# Altium schematic symbol library conn_b2b.SchLib: 41 symbols (part 1 of 2)
Pins are listed as number, name and electrical type; pins without a type are passive.

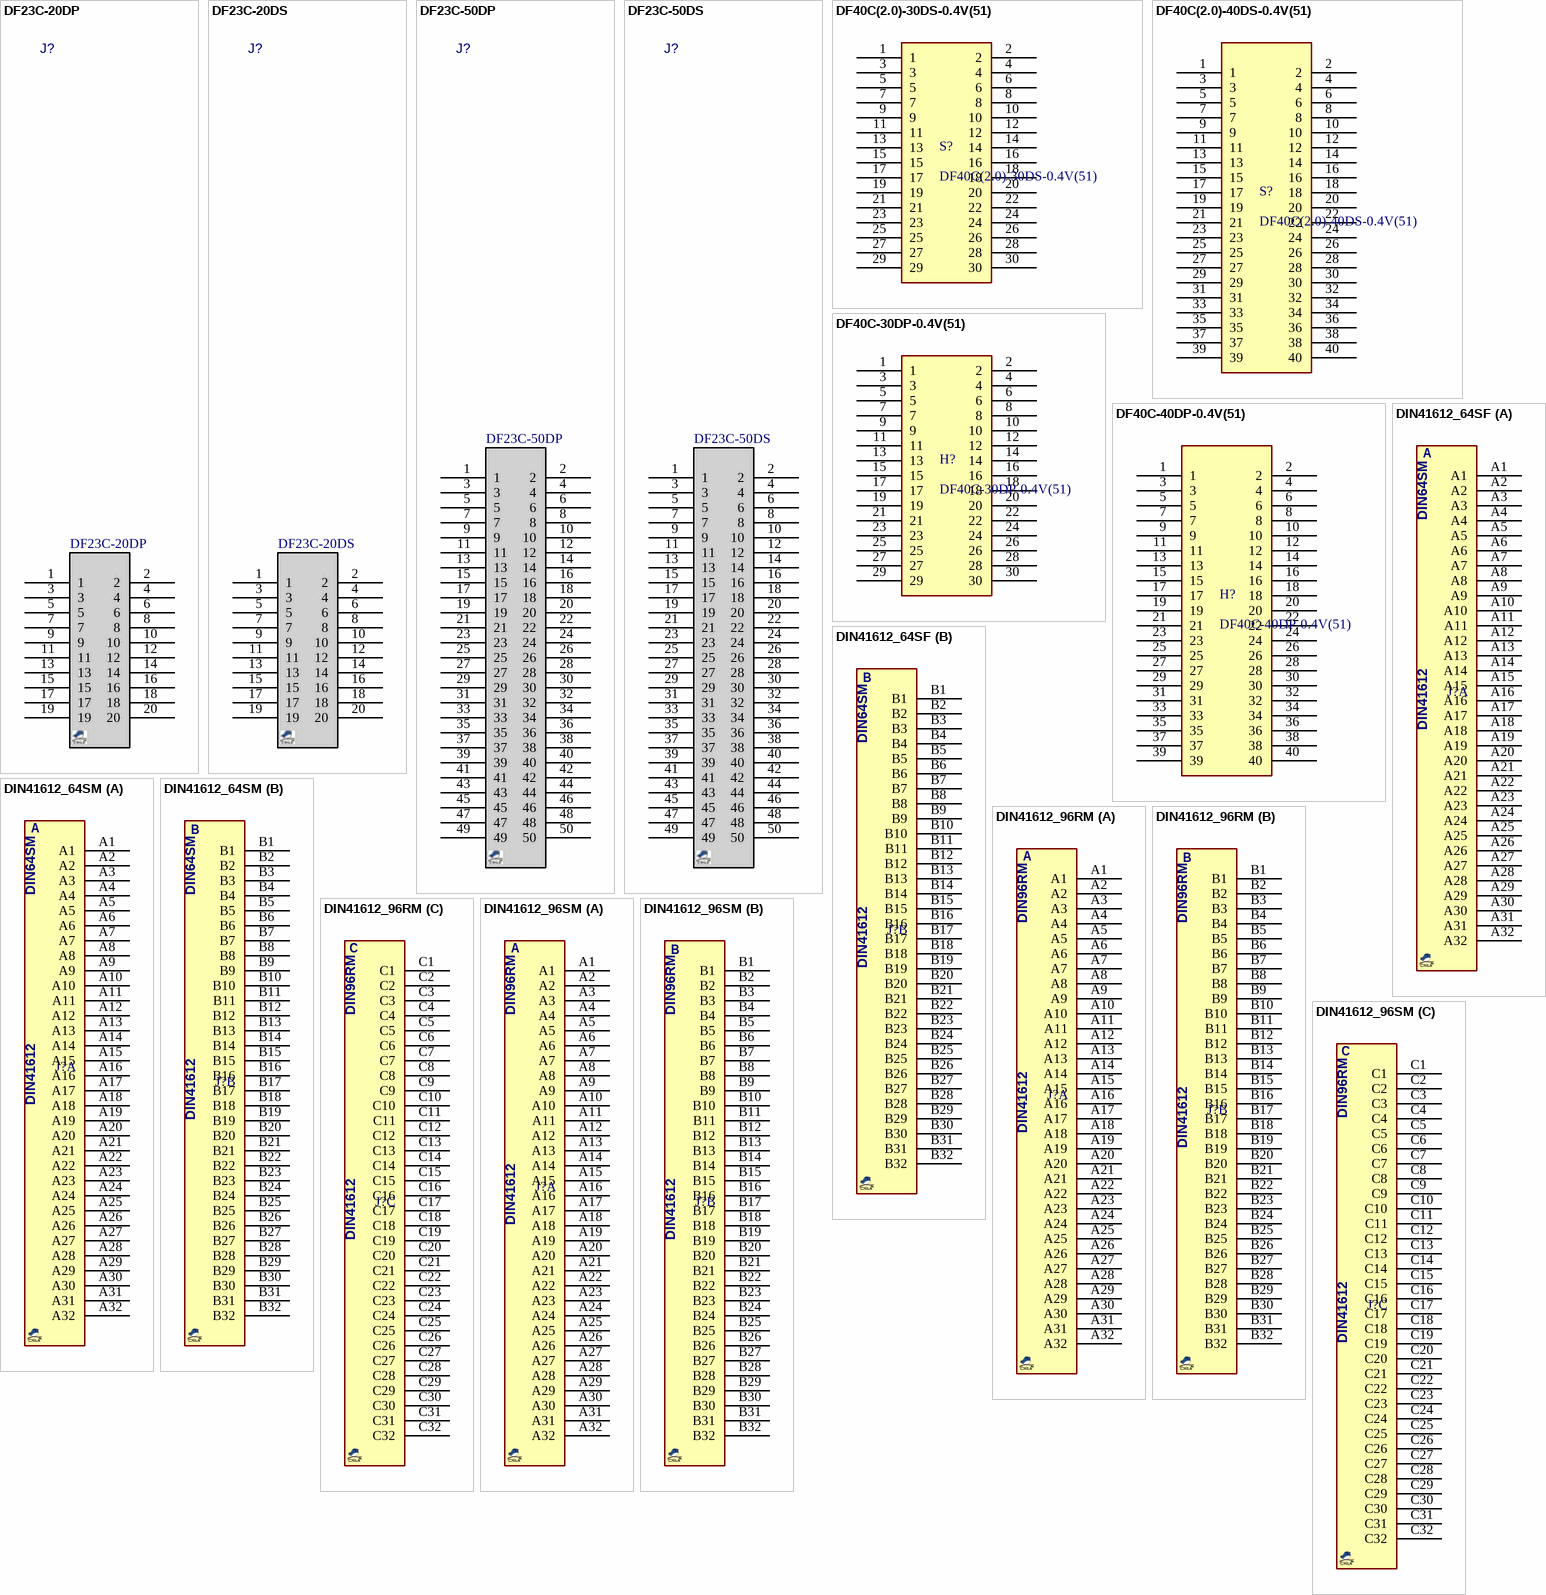
[diagram p0: symbols DF23C-20DP to DIN41612_96SM]

## DF23C-20DP
designator J?
DF23 Series B2B Connectors; MANF: HIROSE; DESC: Mating DF23C-20DS-0.5V(51); MANF_P#: DF23C-20DP-0.5V(92); PRICE: 0.85$; VALUE: DF23C-20DP
footprint DF23C_20DP (Footprint not found)
pins: 1, 2, 3, 4, 5, 6, 7, 8, 9, 10, 11, 12, 13, 14, 15, 16, 17, 18, 19, 20

## DF23C-20DS
designator J?
DF23 Series B2B Connectors; MANF: HIROSE; DESC: Mating DF23C-20DP-0.5V(92); MANF_P#: DF23C-20DS-0.5V(51); PRICE: 0.7$; VALUE: DF23C-20DS
footprint DF23C_20DS (Hirose Connector DF23C-20DS-0.5V(51) 20WAY pitch:0.5mm)
pins: 1, 2, 3, 4, 5, 6, 7, 8, 9, 10, 11, 12, 13, 14, 15, 16, 17, 18, 19, 20

## DF23C-50DP
designator J?
DF23 Series B2B Connectors; MANF: HIROSE; DESC: Mating DF23C-50DS-0.5V(51); MANF_P#: DF23C-50DP-0.5V(92); PRICE: 2$; VALUE: DF23C-50DP
footprint DF23C_50DP (Footprint not found)
pins: 1, 2, 3, 4, 5, 6, 7, 8, 9, 10, 11, 12, 13, 14, 15, 16, 17, 18, 19, 20, 21, 22, 23, 24, 25, 26, 27, 28, 29, 30, 31, 32, 33, 34, 35, 36, 37, 38, 39, 40, 41, 42, 43, 44, 45, 46, 47, 48, 49, 50

## DF23C-50DS
designator J?
DF23 Series B2B Connectors; MANF: HIROSE; DESC: Mating DF23C-50DS-0.5V(92); MANF_P#: DF23C-50DS-0.5V(51); PRICE: 2$; VALUE: DF23C-50DS
footprint DF23C_50DS (Hirose Connector DF23C-50DS-0.5V(51) 50WAY pitch:0.5mm)
pins: 1, 2, 3, 4, 5, 6, 7, 8, 9, 10, 11, 12, 13, 14, 15, 16, 17, 18, 19, 20, 21, 22, 23, 24, 25, 26, 27, 28, 29, 30, 31, 32, 33, 34, 35, 36, 37, 38, 39, 40, 41, 42, 43, 44, 45, 46, 47, 48, 49, 50

## DF40C(2.0)-30DS-0.4V(51)
designator S?
CONN RCPT 30POS 0.4MM SMD GOLD; PARAM2: Polymer Housing, Straight, Gold Plating, 30v; PARAM: 0.3A per pin, 0.4mm pitch, 2mm stack height, -35~85°C; MANF: Hirose; MANF_P#: DF40C(2.0)-30DS-0.4V(51)
footprint DF40C_2_30DS_V (CONN_DF40C, DF40C(2.0)- 30DS-0.4V(51))
pins: 1, 2, 3, 4, 5, 6, 7, 8, 9, 10, 11, 12, 13, 14, 15, 16, 17, 18, 19, 20, 21, 22, 23, 24, 25, 26, 27, 28, 29, 30

## DF40C(2.0)-40DS-0.4V(51)
designator S?
CONN RCPT 40POS 0.4MM SMD GOLD; PARAM2: Polymer Housing, Straight, Gold Plating, 30v; PARAM: 0.3A per pin, 0.4mm pitch, 2mm stack height, -35~85°C; MANF: Hirose; MANF_P#: DF40C(2.0)-40DS-0.4V(51)
footprint DF40C_2_40DS_V (CONN_DF40C, DF40C(2.0)- 40DS-0.4V(51))
pins: 1, 2, 3, 4, 5, 6, 7, 8, 9, 10, 11, 12, 13, 14, 15, 16, 17, 18, 19, 20, 21, 22, 23, 24, 25, 26, 27, 28, 29, 30, 31, 32, 33, 34, 35, 36, 37, 38, 39, 40

## DF40C-30DP-0.4V(51)
designator H?
CONN HDR 30POS 0.4MM SMD GOLD; PARAM2: Polymer Housing, Straight, Gold Plating, 30v; PARAM: 0.3A per pin, 0.4mm pitch, -35~85°C; MANF: Hirose; MANF_P#: DF40C-30DP-0.4V(51)
footprint DF40C_30DP_V (CONN_DF40C, DF40C- 30DP-0.4V(51))
pins: 1, 2, 3, 4, 5, 6, 7, 8, 9, 10, 11, 12, 13, 14, 15, 16, 17, 18, 19, 20, 21, 22, 23, 24, 25, 26, 27, 28, 29, 30

## DF40C-40DP-0.4V(51)
designator H?
CONN HDR 40POS 0.4MM SMD GOLD; PARAM: 0.3A per pin, 0.4mm pitch, -35~85°C; PARAM2: Polymer Housing, Straight, Gold Plating, 30v; MANF: Hirose; MANF_P#: DF40C-40DP-0.4V(51)
footprint DF40C_40DP_V (CONN_DF40C, DF40C- 40DP-0.4V(51))
pins: 1, 2, 3, 4, 5, 6, 7, 8, 9, 10, 11, 12, 13, 14, 15, 16, 17, 18, 19, 20, 21, 22, 23, 24, 25, 26, 27, 28, 29, 30, 31, 32, 33, 34, 35, 36, 37, 38, 39, 40

## DIN41612_64SF
designator J?, comment DIN64SF  (value not drawn)
DIN 41612, 2.54mm,pin,DIN 41612,solder,PCB; MANF: HIROSE; MANF_P#: PCN10-64S-2.54DSA(72); VALUE: DIN64SF
footprint DIN_64SF
part A pins: A1, A2, A3, A4, A5, A6, A7, A8, A9, A10, A11, A12, A13, A14, A15, A16, A17, A18, A19, A20, A21, A22, A23, A24, A25, A26, A27, A28, A29, A30, A31, A32
part B pins: B1, B2, B3, B4, B5, B6, B7, B8, B9, B10, B11, B12, B13, B14, B15, B16, B17, B18, B19, B20, B21, B22, B23, B24, B25, B26, B27, B28, B29, B30, B31, B32
part A text: A; DIN64SM; DIN41612
part B text: B; DIN64SM; DIN41612

## DIN41612_64SM
designator J?, comment DIN64SM  (value not drawn)
DIN 41612, 2.54mm,pin,DIN 41612,solder,PCB; MANF: HIROSE; MANF_P#: PCN10-64P-2.54DSA(72); VALUE: DIN64SM
footprint DIN_64SM (Footprint not found)
part A pins: A1, A2, A3, A4, A5, A6, A7, A8, A9, A10, A11, A12, A13, A14, A15, A16, A17, A18, A19, A20, A21, A22, A23, A24, A25, A26, A27, A28, A29, A30, A31, A32
part B pins: B1, B2, B3, B4, B5, B6, B7, B8, B9, B10, B11, B12, B13, B14, B15, B16, B17, B18, B19, B20, B21, B22, B23, B24, B25, B26, B27, B28, B29, B30, B31, B32
part A text: A; DIN41612
part B text: B; DIN41612

## DIN41612_96RM
designator J?, comment DIN96RM  (value not drawn)
DIN 41612, 2.54mm,pin,DIN 41612,solder,PCB,90,96w,; MANF: TE; MANF_P#: 5650947-5; VALUE: DIN96RM
footprint DIN_96RM
part A pins: A1, A2, A3, A4, A5, A6, A7, A8, A9, A10, A11, A12, A13, A14, A15, A16, A17, A18, A19, A20, A21, A22, A23, A24, A25, A26, A27, A28, A29, A30, A31, A32
part B pins: B1, B2, B3, B4, B5, B6, B7, B8, B9, B10, B11, B12, B13, B14, B15, B16, B17, B18, B19, B20, B21, B22, B23, B24, B25, B26, B27, B28, B29, B30, B31, B32
part C pins: C1, C2, C3, C4, C5, C6, C7, C8, C9, C10, C11, C12, C13, C14, C15, C16, C17, C18, C19, C20, C21, C22, C23, C24, C25, C26, C27, C28, C29, C30, C31, C32
part A text: A; DIN41612
part B text: B; DIN41612
part C text: C; DIN41612

## DIN41612_96SM
designator J?, comment DIN96SM  (value not drawn)
DIN 41612, 2.54mm,pin,DIN 41612,solder,PCB,96w,; MANF: TE; DESC: compatible female 535089-5; MANF_P#: 650470-5; VALUE: DIN96SM
footprint DIN_96SM
part A pins: A1, A2, A3, A4, A5, A6, A7, A8, A9, A10, A11, A12, A13, A14, A15, A16, A17, A18, A19, A20, A21, A22, A23, A24, A25, A26, A27, A28, A29, A30, A31, A32
part B pins: B1, B2, B3, B4, B5, B6, B7, B8, B9, B10, B11, B12, B13, B14, B15, B16, B17, B18, B19, B20, B21, B22, B23, B24, B25, B26, B27, B28, B29, B30, B31, B32
part C pins: C1, C2, C3, C4, C5, C6, C7, C8, C9, C10, C11, C12, C13, C14, C15, C16, C17, C18, C19, C20, C21, C22, C23, C24, C25, C26, C27, C28, C29, C30, C31, C32
part A text: A; DIN96RM; DIN41612
part B text: B; DIN96RM; DIN41612
part C text: C; DIN96RM; DIN41612

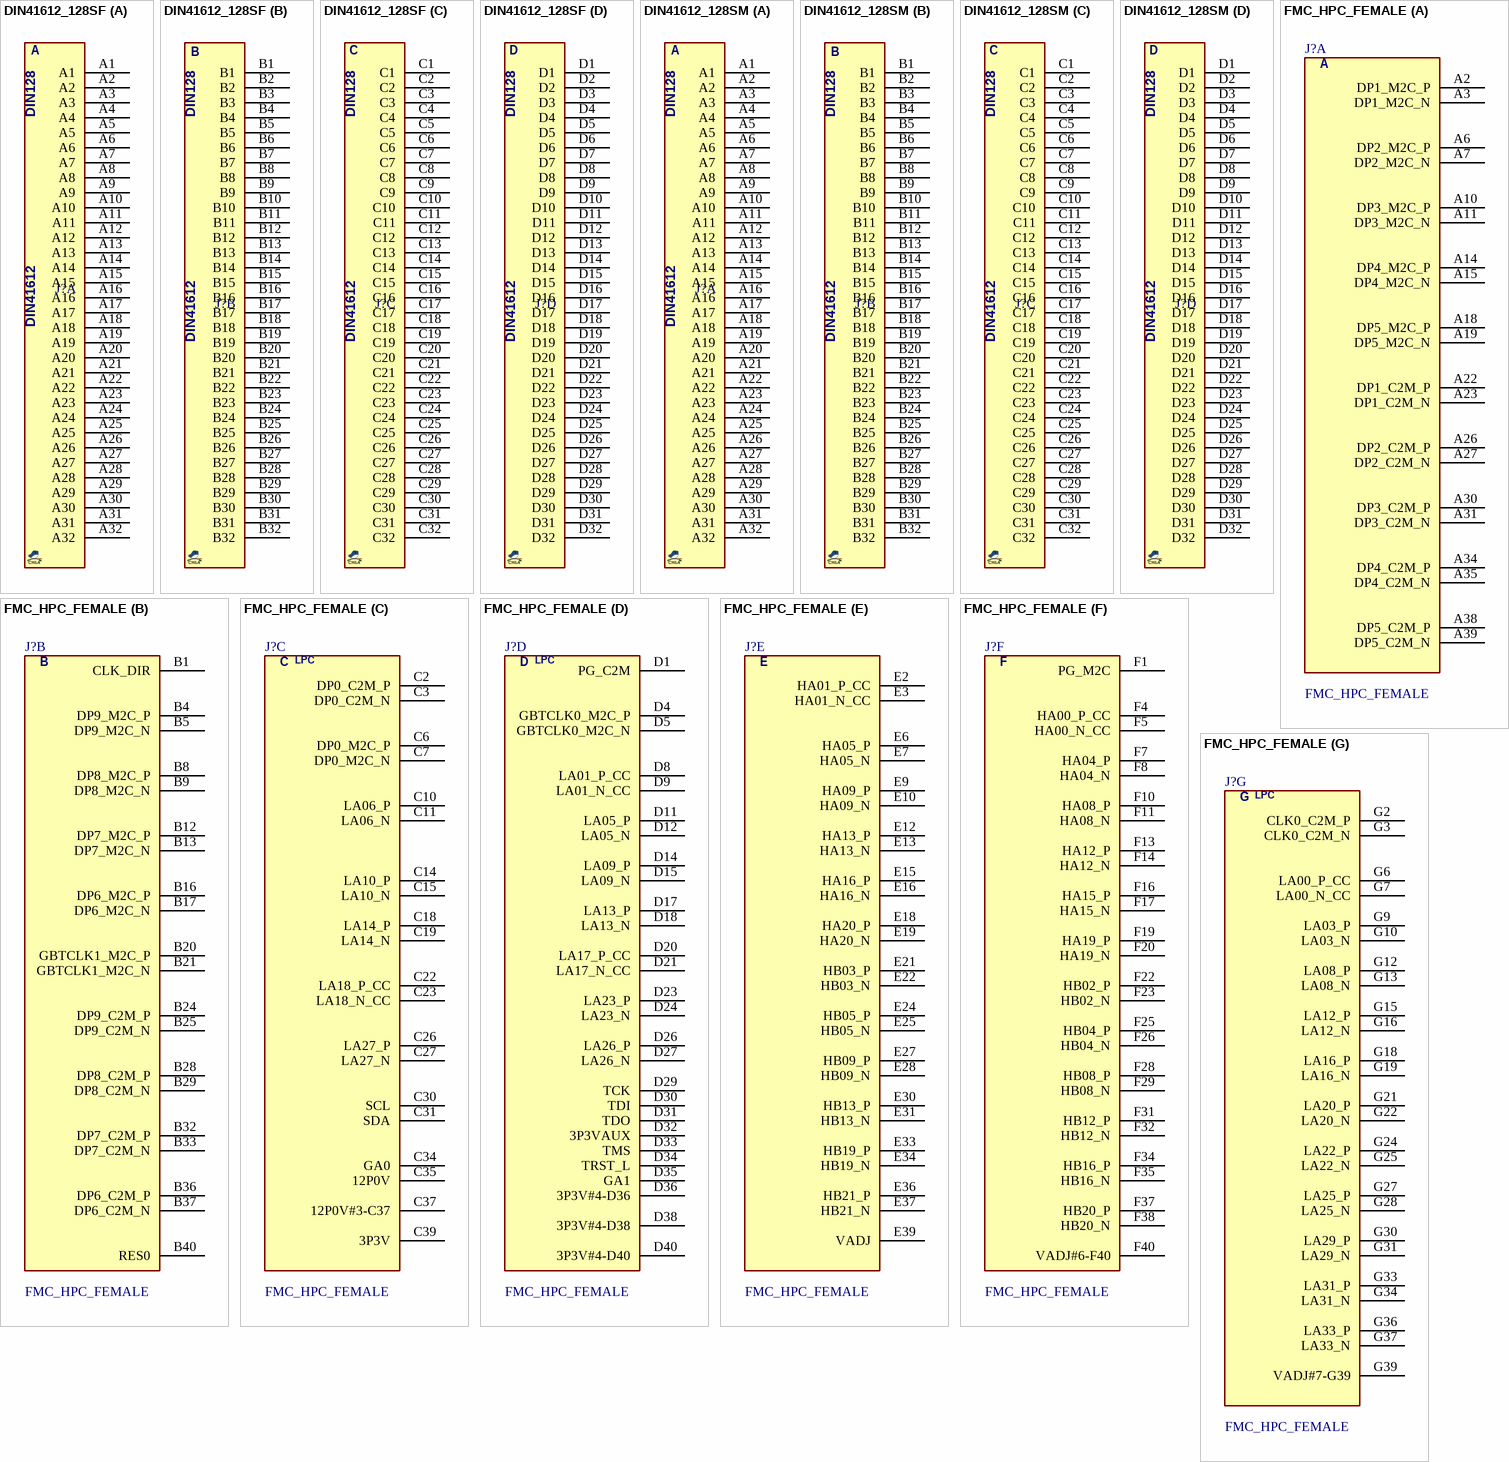
[diagram p1: symbols DIN41612_128SF to FMC_HPC_FEMALE]

## DIN41612_128SF
designator J?, comment DIN128SF  (value not drawn)
DIN 41612, 2.54mm, 128w; MANF: Hirose; MANF_P#: PCN10-128S-2.54DSA; PRICE: 5$; VALUE: DIN128SF
footprint DIN_128SF
part A pins: A1, A2, A3, A4, A5, A6, A7, A8, A9, A10, A11, A12, A13, A14, A15, A16, A17, A18, A19, A20, A21, A22, A23, A24, A25, A26, A27, A28, A29, A30, A31, A32
part B pins: B1, B2, B3, B4, B5, B6, B7, B8, B9, B10, B11, B12, B13, B14, B15, B16, B17, B18, B19, B20, B21, B22, B23, B24, B25, B26, B27, B28, B29, B30, B31, B32
part C pins: C1, C2, C3, C4, C5, C6, C7, C8, C9, C10, C11, C12, C13, C14, C15, C16, C17, C18, C19, C20, C21, C22, C23, C24, C25, C26, C27, C28, C29, C30, C31, C32
part D pins: D1, D2, D3, D4, D5, D6, D7, D8, D9, D10, D11, D12, D13, D14, D15, D16, D17, D18, D19, D20, D21, D22, D23, D24, D25, D26, D27, D28, D29, D30, D31, D32
part A text: A; DIN128; DIN41612
part B text: B; DIN128; DIN41612
part C text: C; DIN128; DIN41612
part D text: D; DIN128; DIN41612

## DIN41612_128SM
designator J?, comment DIN128SM  (value not drawn)
DIN 41612, 2.54mm, 128w; MANF: Hirose; MANF_P#: PCN10-128P-2.54DSA; PRICE: 5$; VALUE: DIN128SM
footprint DIN_128SM
part A pins: A1, A2, A3, A4, A5, A6, A7, A8, A9, A10, A11, A12, A13, A14, A15, A16, A17, A18, A19, A20, A21, A22, A23, A24, A25, A26, A27, A28, A29, A30, A31, A32
part B pins: B1, B2, B3, B4, B5, B6, B7, B8, B9, B10, B11, B12, B13, B14, B15, B16, B17, B18, B19, B20, B21, B22, B23, B24, B25, B26, B27, B28, B29, B30, B31, B32
part C pins: C1, C2, C3, C4, C5, C6, C7, C8, C9, C10, C11, C12, C13, C14, C15, C16, C17, C18, C19, C20, C21, C22, C23, C24, C25, C26, C27, C28, C29, C30, C31, C32
part D pins: D1, D2, D3, D4, D5, D6, D7, D8, D9, D10, D11, D12, D13, D14, D15, D16, D17, D18, D19, D20, D21, D22, D23, D24, D25, D26, D27, D28, D29, D30, D31, D32
part A text: A; DIN128; DIN41612
part B text: B; DIN128; DIN41612
part C text: C; DIN128; DIN41612
part D text: D; DIN128; DIN41612

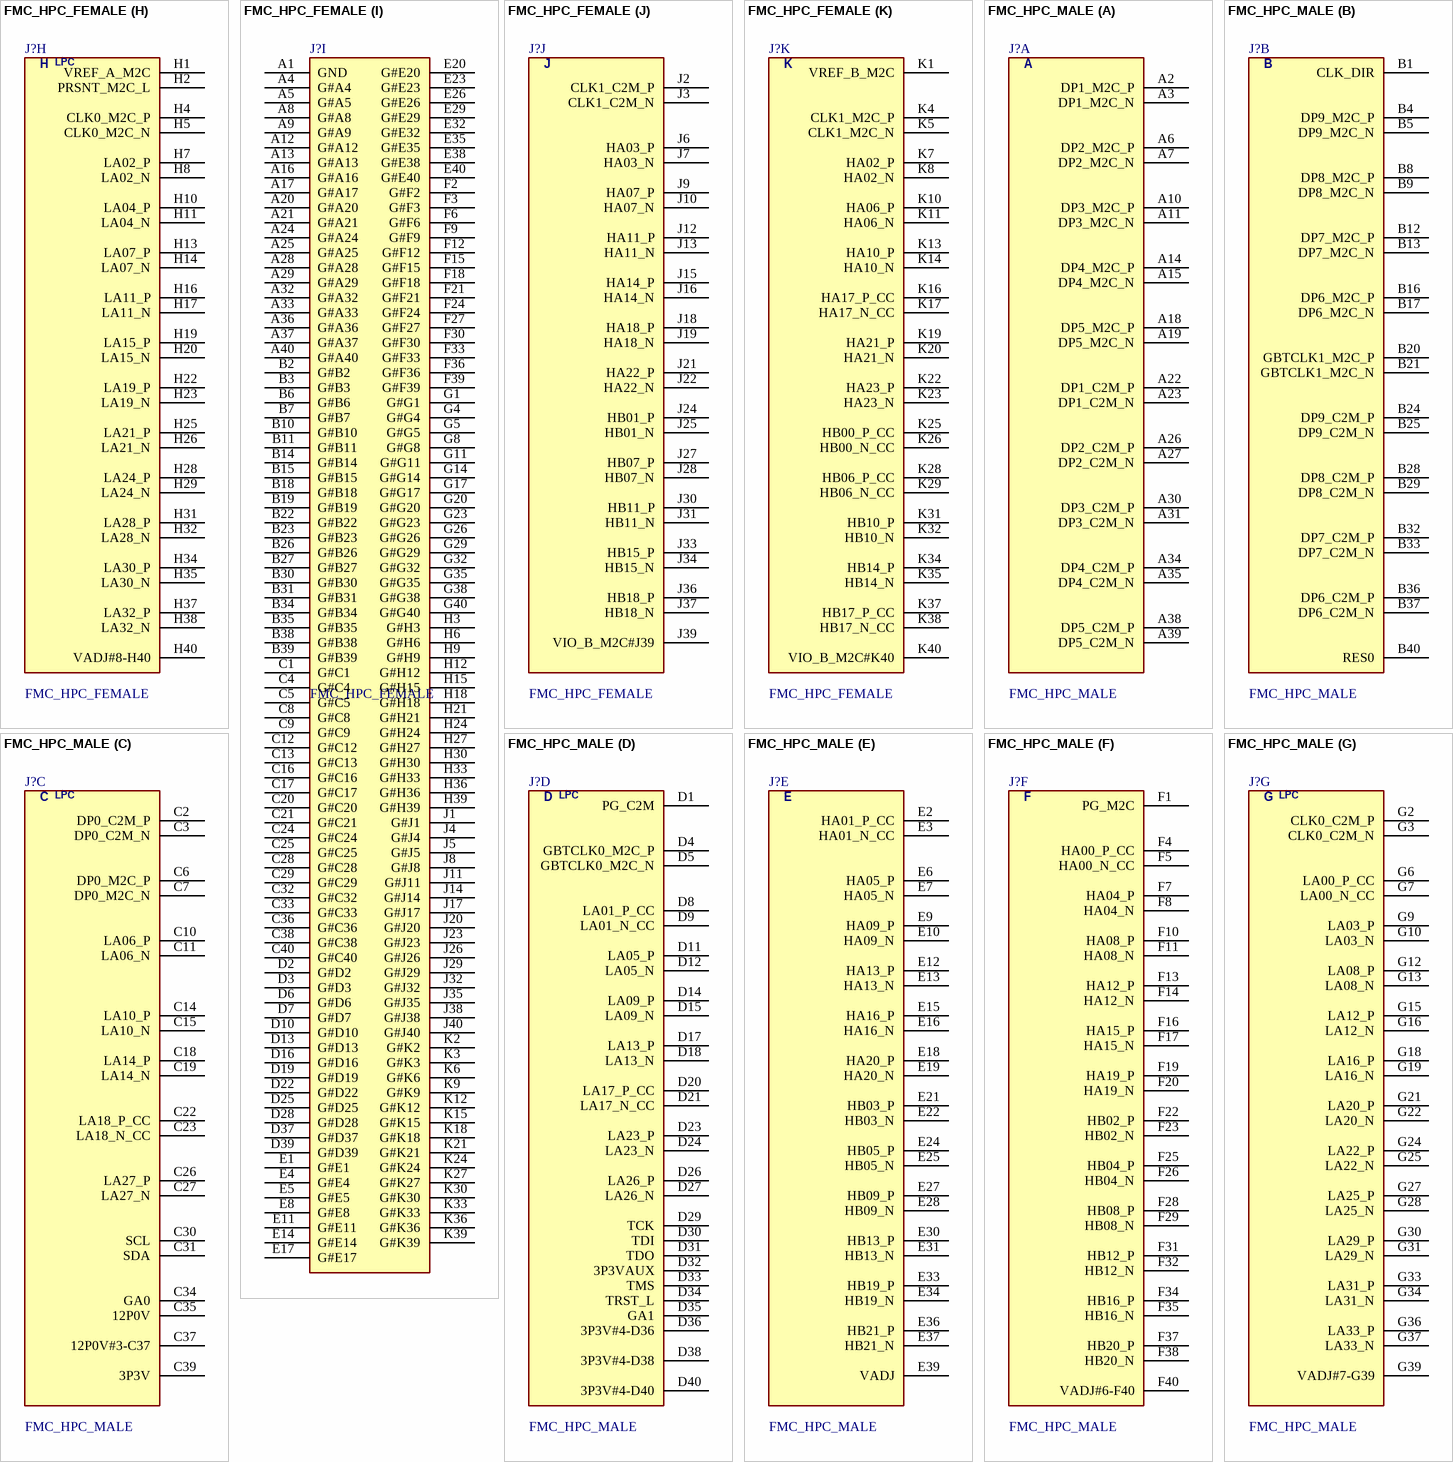
[diagram p2: symbols FMC_HPC_FEMALE to FMC_HPC_MALE]

## FMC_HPC_FEMALE
designator J?
CONN, FMC, HPC, 400PIN, FEMALE for Carrier; DESC: ASP-134486 for female / ASP-134488 for male; MANF: SAMTEC, MOLEX; MANF_P#: ASP-134486-01; PARAM: Carrier; VALUE: FMC_HPC_FEMALE
footprint FMC_HPC_F (Samtec FMC (FPGA mezzanine Card) HPC female, ASP-134486)
part A pins: A2 DP1_M2C_P, A3 DP1_M2C_N, A6 DP2_M2C_P, A7 DP2_M2C_N, A10 DP3_M2C_P, A11 DP3_M2C_N, A14 DP4_M2C_P, A15 DP4_M2C_N, A18 DP5_M2C_P, A19 DP5_M2C_N, A22 DP1_C2M_P, A23 DP1_C2M_N, A26 DP2_C2M_P, A27 DP2_C2M_N, A30 DP3_C2M_P, A31 DP3_C2M_N, A34 DP4_C2M_P, A35 DP4_C2M_N, A38 DP5_C2M_P, A39 DP5_C2M_N
part B pins: B1 CLK_DIR, B4 DP9_M2C_P, B5 DP9_M2C_N, B8 DP8_M2C_P, B9 DP8_M2C_N, B12 DP7_M2C_P, B13 DP7_M2C_N, B16 DP6_M2C_P, B17 DP6_M2C_N, B20 GBTCLK1_M2C_P, B21 GBTCLK1_M2C_N, B24 DP9_C2M_P, B25 DP9_C2M_N, B28 DP8_C2M_P, B29 DP8_C2M_N, B32 DP7_C2M_P, B33 DP7_C2M_N, B36 DP6_C2M_P, B37 DP6_C2M_N, B40 RES0
part C pins: C2 DP0_C2M_P, C3 DP0_C2M_N, C6 DP0_M2C_P, C7 DP0_M2C_N, C10 LA06_P, C11 LA06_N, C14 LA10_P, C15 LA10_N, C18 LA14_P, C19 LA14_N, C22 LA18_P_CC, C23 LA18_N_CC, C26 LA27_P, C27 LA27_N, C30 SCL, C31 SDA, C34 GA0, C35 12P0V, C37 12P0V#3-C37, C39 3P3V
part D pins: D1 PG_C2M, D4 GBTCLK0_M2C_P, D5 GBTCLK0_M2C_N, D8 LA01_P_CC, D9 LA01_N_CC, D11 LA05_P, D12 LA05_N, D14 LA09_P, D15 LA09_N, D17 LA13_P, D18 LA13_N, D20 LA17_P_CC, D21 LA17_N_CC, D23 LA23_P, D24 LA23_N, D26 LA26_P, D27 LA26_N, D29 TCK, D30 TDI, D31 TDO, D32 3P3VAUX, D33 TMS, D34 TRST_L, D35 GA1, D36 3P3V#4-D36, D38 3P3V#4-D38, D40 3P3V#4-D40
part E pins: E2 HA01_P_CC, E3 HA01_N_CC, E6 HA05_P, E7 HA05_N, E9 HA09_P, E10 HA09_N, E12 HA13_P, E13 HA13_N, E15 HA16_P, E16 HA16_N, E18 HA20_P, E19 HA20_N, E21 HB03_P, E22 HB03_N, E24 HB05_P, E25 HB05_N, E27 HB09_P, E28 HB09_N, E30 HB13_P, E31 HB13_N, E33 HB19_P, E34 HB19_N, E36 HB21_P, E37 HB21_N, E39 VADJ
part F pins: F1 PG_M2C, F4 HA00_P_CC, F5 HA00_N_CC, F7 HA04_P, F8 HA04_N, F10 HA08_P, F11 HA08_N, F13 HA12_P, F14 HA12_N, F16 HA15_P, F17 HA15_N, F19 HA19_P, F20 HA19_N, F22 HB02_P, F23 HB02_N, F25 HB04_P, F26 HB04_N, F28 HB08_P, F29 HB08_N, F31 HB12_P, F32 HB12_N, F34 HB16_P, F35 HB16_N, F37 HB20_P, F38 HB20_N, F40 VADJ#6-F40
part G pins: G2 CLK0_C2M_P, G3 CLK0_C2M_N, G6 LA00_P_CC, G7 LA00_N_CC, G9 LA03_P, G10 LA03_N, G12 LA08_P, G13 LA08_N, G15 LA12_P, G16 LA12_N, G18 LA16_P, G19 LA16_N, G21 LA20_P, G22 LA20_N, G24 LA22_P, G25 LA22_N, G27 LA25_P, G28 LA25_N, G30 LA29_P, G31 LA29_N, G33 LA31_P, G34 LA31_N, G36 LA33_P, G37 LA33_N, G39 VADJ#7-G39
part H pins: H1 VREF_A_M2C, H2 PRSNT_M2C_L, H4 CLK0_M2C_P, H5 CLK0_M2C_N, H7 LA02_P, H8 LA02_N, H10 LA04_P, H11 LA04_N, H13 LA07_P, H14 LA07_N, H16 LA11_P, H17 LA11_N, H19 LA15_P, H20 LA15_N, H22 LA19_P, H23 LA19_N, H25 LA21_P, H26 LA21_N, H28 LA24_P, H29 LA24_N, H31 LA28_P, H32 LA28_N, H34 LA30_P, H35 LA30_N, H37 LA32_P, H38 LA32_N, H40 VADJ#8-H40
part I pins: A1 GND, A4 G#A4, A5 G#A5, A8 G#A8, A9 G#A9, A12 G#A12, A13 G#A13, A16 G#A16, A17 G#A17, A20 G#A20, A21 G#A21, A24 G#A24, A25 G#A25, A28 G#A28, A29 G#A29, A32 G#A32, A33 G#A33, A36 G#A36, A37 G#A37, A40 G#A40, B2 G#B2, B3 G#B3, B6 G#B6, B7 G#B7, B10 G#B10, B11 G#B11, B14 G#B14, B15 G#B15, B18 G#B18, B19 G#B19, B22 G#B22, B23 G#B23, B26 G#B26, B27 G#B27, B30 G#B30, B31 G#B31, B34 G#B34, B35 G#B35, B38 G#B38, B39 G#B39, C1 G#C1, C4 G#C4, C5 G#C5, C8 G#C8, C9 G#C9, C12 G#C12, C13 G#C13, C16 G#C16, C17 G#C17, C20 G#C20, C21 G#C21, C24 G#C24, C25 G#C25, C28 G#C28, C29 G#C29, C32 G#C32, C33 G#C33, C36 G#C36, C38 G#C38, C40 G#C40, D2 G#D2, D3 G#D3, D6 G#D6, D7 G#D7, D10 G#D10, D13 G#D13, D16 G#D16, D19 G#D19, D22 G#D22, D25 G#D25, D28 G#D28, D37 G#D37, D39 G#D39, E1 G#E1, E4 G#E4, E5 G#E5, E8 G#E8, E11 G#E11, E14 G#E14, E17 G#E17, E20 G#E20, E23 G#E23, E26 G#E26, E29 G#E29, E32 G#E32, E35 G#E35, E38 G#E38, E40 G#E40, F2 G#F2, F3 G#F3, F6 G#F6, F9 G#F9, F12 G#F12, F15 G#F15, F18 G#F18, F21 G#F21, F24 G#F24, F27 G#F27, F30 G#F30, F33 G#F33, F36 G#F36, F39 G#F39, G1 G#G1, G4 G#G4, G5 G#G5, G8 G#G8, G11 G#G11, G14 G#G14, G17 G#G17, G20 G#G20, G23 G#G23, G26 G#G26, G29 G#G29, G32 G#G32, G35 G#G35, G38 G#G38, G40 G#G40, H3 G#H3, H6 G#H6, H9 G#H9, H12 G#H12, H15 G#H15, H18 G#H18, H21 G#H21, H24 G#H24, H27 G#H27, H30 G#H30, H33 G#H33, H36 G#H36, H39 G#H39, J1 G#J1, J4 G#J4, J5 G#J5, J8 G#J8, J11 G#J11, J14 G#J14, J17 G#J17, J20 G#J20, J23 G#J23, J26 G#J26, J29 G#J29, J32 G#J32, J35 G#J35, J38 G#J38, J40 G#J40, K2 G#K2, K3 G#K3, K6 G#K6, K9 G#K9, K12 G#K12, K15 G#K15, K18 G#K18, K21 G#K21, K24 G#K24, K27 G#K27, K30 G#K30, K33 G#K33, K36 G#K36, K39 G#K39
part J pins: J2 CLK1_C2M_P, J3 CLK1_C2M_N, J6 HA03_P, J7 HA03_N, J9 HA07_P, J10 HA07_N, J12 HA11_P, J13 HA11_N, J15 HA14_P, J16 HA14_N, J18 HA18_P, J19 HA18_N, J21 HA22_P, J22 HA22_N, J24 HB01_P, J25 HB01_N, J27 HB07_P, J28 HB07_N, J30 HB11_P, J31 HB11_N, J33 HB15_P, J34 HB15_N, J36 HB18_P, J37 HB18_N, J39 VIO_B_M2C#J39
part K pins: K1 VREF_B_M2C, K4 CLK1_M2C_P, K5 CLK1_M2C_N, K7 HA02_P, K8 HA02_N, K10 HA06_P, K11 HA06_N, K13 HA10_P, K14 HA10_N, K16 HA17_P_CC, K17 HA17_N_CC, K19 HA21_P, K20 HA21_N, K22 HA23_P, K23 HA23_N, K25 HB00_P_CC, K26 HB00_N_CC, K28 HB06_P_CC, K29 HB06_N_CC, K31 HB10_P, K32 HB10_N, K34 HB14_P, K35 HB14_N, K37 HB17_P_CC, K38 HB17_N_CC, K40 VIO_B_M2C#K40
part A text: A
part B text: B
part C text: C; LPC
part D text: D; LPC
part E text: E
part F text: F
part G text: G; LPC
part H text: H; LPC
part J text: J
part K text: K

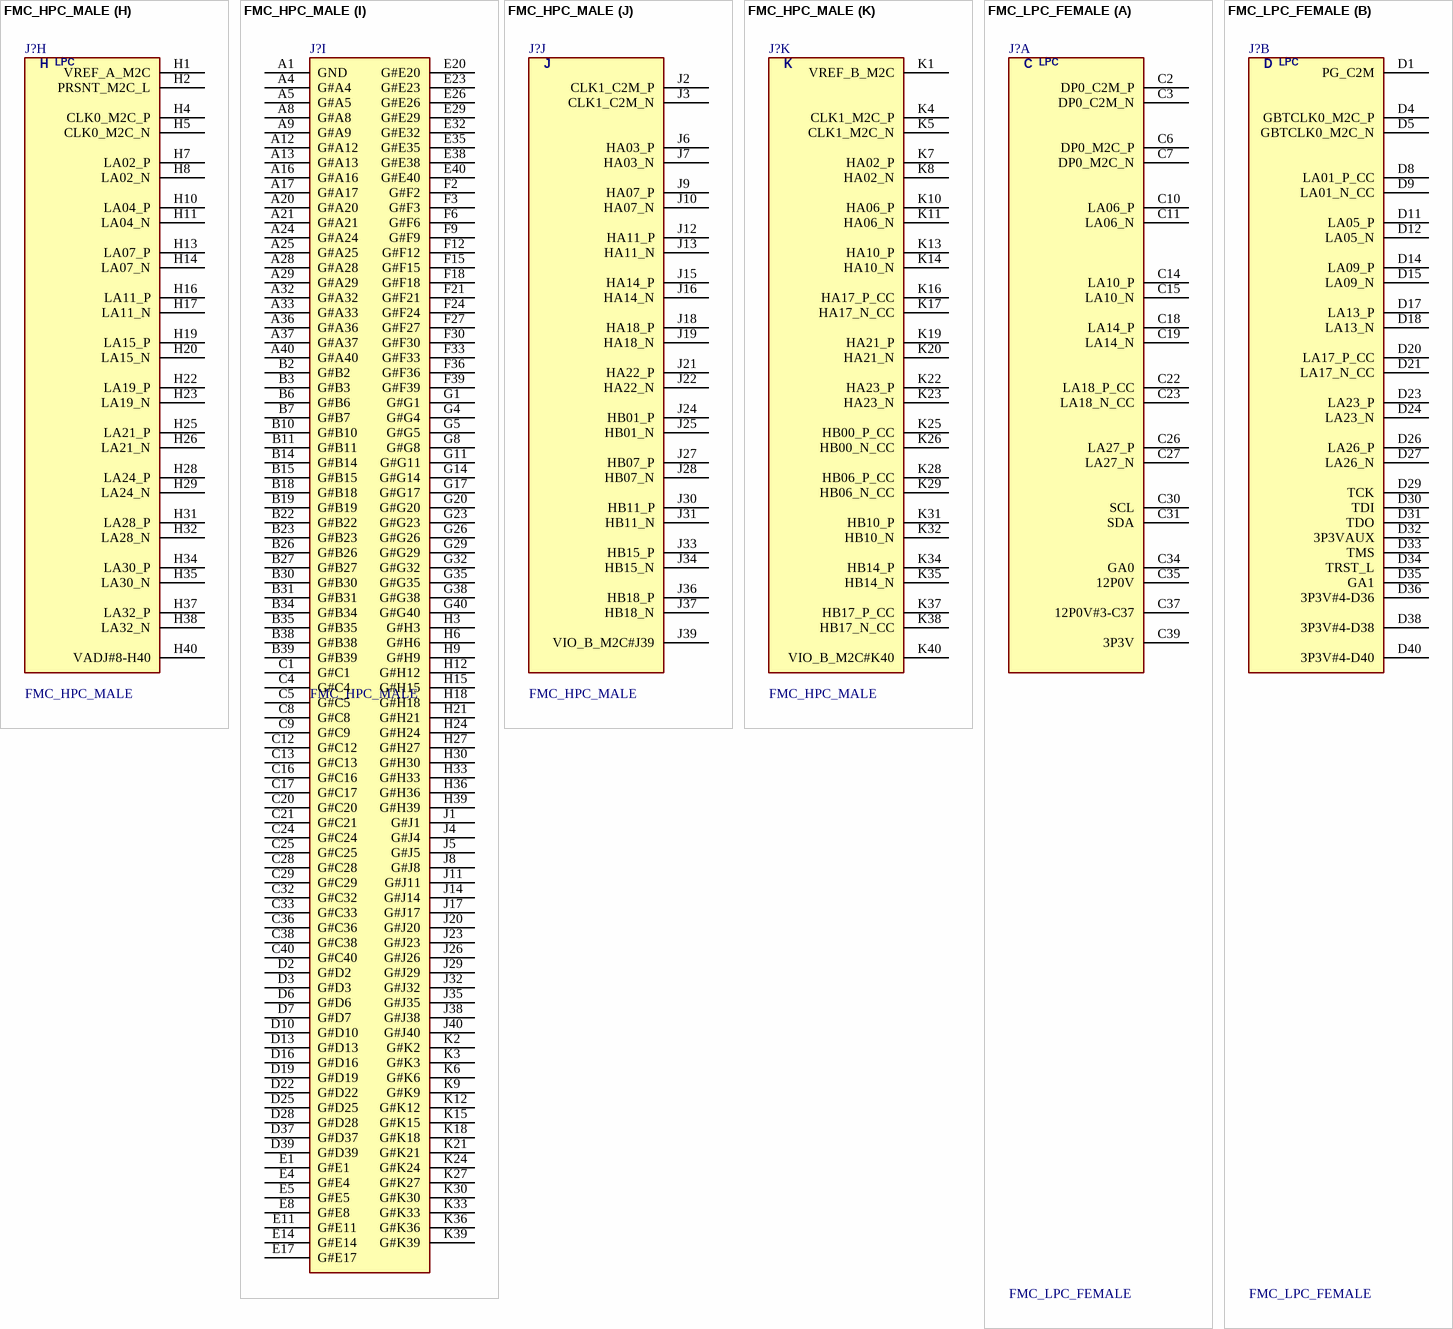
[diagram p3: symbols FMC_HPC_MALE to FMC_LPC_FEMALE]

## FMC_HPC_MALE
designator J?
CONN, FMC, HPC, 400PIN, MALE for Module; DESC: ASP-134486 for female / ASP-134488 for male; MANF: SAMTEC, MOLEX; MANF_P#: ASP-134488-01; PARAM: Module; VALUE: FMC_HPC_MALE
footprint FMC_HPC_M (Samtec FMC (FPGA mezzanine Card) HPC male, ASP-134488)
part A pins: A2 DP1_M2C_P, A3 DP1_M2C_N, A6 DP2_M2C_P, A7 DP2_M2C_N, A10 DP3_M2C_P, A11 DP3_M2C_N, A14 DP4_M2C_P, A15 DP4_M2C_N, A18 DP5_M2C_P, A19 DP5_M2C_N, A22 DP1_C2M_P, A23 DP1_C2M_N, A26 DP2_C2M_P, A27 DP2_C2M_N, A30 DP3_C2M_P, A31 DP3_C2M_N, A34 DP4_C2M_P, A35 DP4_C2M_N, A38 DP5_C2M_P, A39 DP5_C2M_N
part B pins: B1 CLK_DIR, B4 DP9_M2C_P, B5 DP9_M2C_N, B8 DP8_M2C_P, B9 DP8_M2C_N, B12 DP7_M2C_P, B13 DP7_M2C_N, B16 DP6_M2C_P, B17 DP6_M2C_N, B20 GBTCLK1_M2C_P, B21 GBTCLK1_M2C_N, B24 DP9_C2M_P, B25 DP9_C2M_N, B28 DP8_C2M_P, B29 DP8_C2M_N, B32 DP7_C2M_P, B33 DP7_C2M_N, B36 DP6_C2M_P, B37 DP6_C2M_N, B40 RES0
part C pins: C2 DP0_C2M_P, C3 DP0_C2M_N, C6 DP0_M2C_P, C7 DP0_M2C_N, C10 LA06_P, C11 LA06_N, C14 LA10_P, C15 LA10_N, C18 LA14_P, C19 LA14_N, C22 LA18_P_CC, C23 LA18_N_CC, C26 LA27_P, C27 LA27_N, C30 SCL, C31 SDA, C34 GA0, C35 12P0V, C37 12P0V#3-C37, C39 3P3V
part D pins: D1 PG_C2M, D4 GBTCLK0_M2C_P, D5 GBTCLK0_M2C_N, D8 LA01_P_CC, D9 LA01_N_CC, D11 LA05_P, D12 LA05_N, D14 LA09_P, D15 LA09_N, D17 LA13_P, D18 LA13_N, D20 LA17_P_CC, D21 LA17_N_CC, D23 LA23_P, D24 LA23_N, D26 LA26_P, D27 LA26_N, D29 TCK, D30 TDI, D31 TDO, D32 3P3VAUX, D33 TMS, D34 TRST_L, D35 GA1, D36 3P3V#4-D36, D38 3P3V#4-D38, D40 3P3V#4-D40
part E pins: E2 HA01_P_CC, E3 HA01_N_CC, E6 HA05_P, E7 HA05_N, E9 HA09_P, E10 HA09_N, E12 HA13_P, E13 HA13_N, E15 HA16_P, E16 HA16_N, E18 HA20_P, E19 HA20_N, E21 HB03_P, E22 HB03_N, E24 HB05_P, E25 HB05_N, E27 HB09_P, E28 HB09_N, E30 HB13_P, E31 HB13_N, E33 HB19_P, E34 HB19_N, E36 HB21_P, E37 HB21_N, E39 VADJ
part F pins: F1 PG_M2C, F4 HA00_P_CC, F5 HA00_N_CC, F7 HA04_P, F8 HA04_N, F10 HA08_P, F11 HA08_N, F13 HA12_P, F14 HA12_N, F16 HA15_P, F17 HA15_N, F19 HA19_P, F20 HA19_N, F22 HB02_P, F23 HB02_N, F25 HB04_P, F26 HB04_N, F28 HB08_P, F29 HB08_N, F31 HB12_P, F32 HB12_N, F34 HB16_P, F35 HB16_N, F37 HB20_P, F38 HB20_N, F40 VADJ#6-F40
part G pins: G2 CLK0_C2M_P, G3 CLK0_C2M_N, G6 LA00_P_CC, G7 LA00_N_CC, G9 LA03_P, G10 LA03_N, G12 LA08_P, G13 LA08_N, G15 LA12_P, G16 LA12_N, G18 LA16_P, G19 LA16_N, G21 LA20_P, G22 LA20_N, G24 LA22_P, G25 LA22_N, G27 LA25_P, G28 LA25_N, G30 LA29_P, G31 LA29_N, G33 LA31_P, G34 LA31_N, G36 LA33_P, G37 LA33_N, G39 VADJ#7-G39
part H pins: H1 VREF_A_M2C, H2 PRSNT_M2C_L, H4 CLK0_M2C_P, H5 CLK0_M2C_N, H7 LA02_P, H8 LA02_N, H10 LA04_P, H11 LA04_N, H13 LA07_P, H14 LA07_N, H16 LA11_P, H17 LA11_N, H19 LA15_P, H20 LA15_N, H22 LA19_P, H23 LA19_N, H25 LA21_P, H26 LA21_N, H28 LA24_P, H29 LA24_N, H31 LA28_P, H32 LA28_N, H34 LA30_P, H35 LA30_N, H37 LA32_P, H38 LA32_N, H40 VADJ#8-H40
part I pins: A1 GND, A4 G#A4, A5 G#A5, A8 G#A8, A9 G#A9, A12 G#A12, A13 G#A13, A16 G#A16, A17 G#A17, A20 G#A20, A21 G#A21, A24 G#A24, A25 G#A25, A28 G#A28, A29 G#A29, A32 G#A32, A33 G#A33, A36 G#A36, A37 G#A37, A40 G#A40, B2 G#B2, B3 G#B3, B6 G#B6, B7 G#B7, B10 G#B10, B11 G#B11, B14 G#B14, B15 G#B15, B18 G#B18, B19 G#B19, B22 G#B22, B23 G#B23, B26 G#B26, B27 G#B27, B30 G#B30, B31 G#B31, B34 G#B34, B35 G#B35, B38 G#B38, B39 G#B39, C1 G#C1, C4 G#C4, C5 G#C5, C8 G#C8, C9 G#C9, C12 G#C12, C13 G#C13, C16 G#C16, C17 G#C17, C20 G#C20, C21 G#C21, C24 G#C24, C25 G#C25, C28 G#C28, C29 G#C29, C32 G#C32, C33 G#C33, C36 G#C36, C38 G#C38, C40 G#C40, D2 G#D2, D3 G#D3, D6 G#D6, D7 G#D7, D10 G#D10, D13 G#D13, D16 G#D16, D19 G#D19, D22 G#D22, D25 G#D25, D28 G#D28, D37 G#D37, D39 G#D39, E1 G#E1, E4 G#E4, E5 G#E5, E8 G#E8, E11 G#E11, E14 G#E14, E17 G#E17, E20 G#E20, E23 G#E23, E26 G#E26, E29 G#E29, E32 G#E32, E35 G#E35, E38 G#E38, E40 G#E40, F2 G#F2, F3 G#F3, F6 G#F6, F9 G#F9, F12 G#F12, F15 G#F15, F18 G#F18, F21 G#F21, F24 G#F24, F27 G#F27, F30 G#F30, F33 G#F33, F36 G#F36, F39 G#F39, G1 G#G1, G4 G#G4, G5 G#G5, G8 G#G8, G11 G#G11, G14 G#G14, G17 G#G17, G20 G#G20, G23 G#G23, G26 G#G26, G29 G#G29, G32 G#G32, G35 G#G35, G38 G#G38, G40 G#G40, H3 G#H3, H6 G#H6, H9 G#H9, H12 G#H12, H15 G#H15, H18 G#H18, H21 G#H21, H24 G#H24, H27 G#H27, H30 G#H30, H33 G#H33, H36 G#H36, H39 G#H39, J1 G#J1, J4 G#J4, J5 G#J5, J8 G#J8, J11 G#J11, J14 G#J14, J17 G#J17, J20 G#J20, J23 G#J23, J26 G#J26, J29 G#J29, J32 G#J32, J35 G#J35, J38 G#J38, J40 G#J40, K2 G#K2, K3 G#K3, K6 G#K6, K9 G#K9, K12 G#K12, K15 G#K15, K18 G#K18, K21 G#K21, K24 G#K24, K27 G#K27, K30 G#K30, K33 G#K33, K36 G#K36, K39 G#K39
part J pins: J2 CLK1_C2M_P, J3 CLK1_C2M_N, J6 HA03_P, J7 HA03_N, J9 HA07_P, J10 HA07_N, J12 HA11_P, J13 HA11_N, J15 HA14_P, J16 HA14_N, J18 HA18_P, J19 HA18_N, J21 HA22_P, J22 HA22_N, J24 HB01_P, J25 HB01_N, J27 HB07_P, J28 HB07_N, J30 HB11_P, J31 HB11_N, J33 HB15_P, J34 HB15_N, J36 HB18_P, J37 HB18_N, J39 VIO_B_M2C#J39
part K pins: K1 VREF_B_M2C, K4 CLK1_M2C_P, K5 CLK1_M2C_N, K7 HA02_P, K8 HA02_N, K10 HA06_P, K11 HA06_N, K13 HA10_P, K14 HA10_N, K16 HA17_P_CC, K17 HA17_N_CC, K19 HA21_P, K20 HA21_N, K22 HA23_P, K23 HA23_N, K25 HB00_P_CC, K26 HB00_N_CC, K28 HB06_P_CC, K29 HB06_N_CC, K31 HB10_P, K32 HB10_N, K34 HB14_P, K35 HB14_N, K37 HB17_P_CC, K38 HB17_N_CC, K40 VIO_B_M2C#K40
part A text: A
part B text: B
part C text: C; LPC
part D text: D; LPC
part E text: E
part F text: F
part G text: G; LPC
part H text: H; LPC
part J text: J
part K text: K

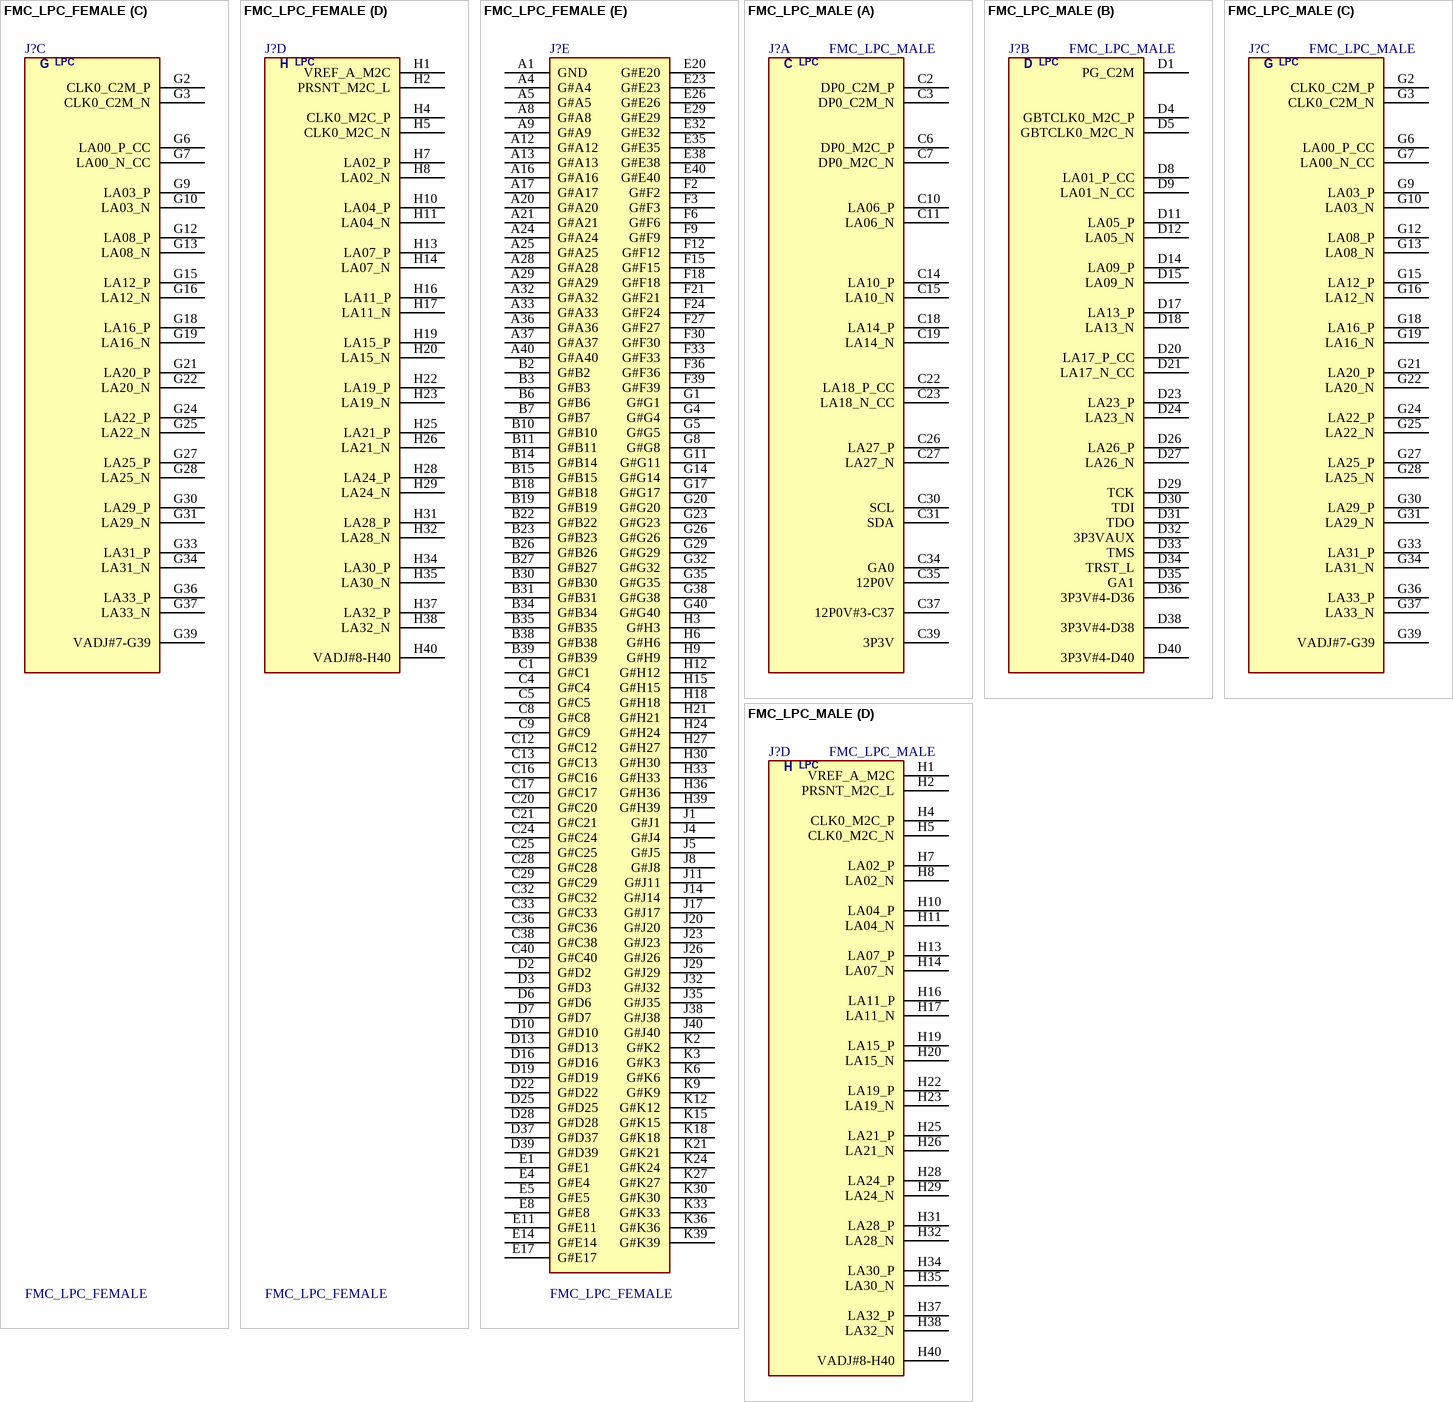
[diagram p4: symbols FMC_LPC_FEMALE to FMC_LPC_MALE]

## FMC_LPC_FEMALE
designator J?
CONN, FMC, LPC, 160PIN, FEMALE for Carrier; MANF: SAMTEC, MOLEX; MANF_P#: ASP-134603-01; PARAM: Carrier; VALUE: FMC_LPC_FEMALE
footprint FMC_LPC_F (Samtec FMC (FPGA mezzanine Card) LPC female, ASP-134603)
part A pins: C2 DP0_C2M_P, C3 DP0_C2M_N, C6 DP0_M2C_P, C7 DP0_M2C_N, C10 LA06_P, C11 LA06_N, C14 LA10_P, C15 LA10_N, C18 LA14_P, C19 LA14_N, C22 LA18_P_CC, C23 LA18_N_CC, C26 LA27_P, C27 LA27_N, C30 SCL, C31 SDA, C34 GA0, C35 12P0V, C37 12P0V#3-C37, C39 3P3V
part B pins: D1 PG_C2M, D4 GBTCLK0_M2C_P, D5 GBTCLK0_M2C_N, D8 LA01_P_CC, D9 LA01_N_CC, D11 LA05_P, D12 LA05_N, D14 LA09_P, D15 LA09_N, D17 LA13_P, D18 LA13_N, D20 LA17_P_CC, D21 LA17_N_CC, D23 LA23_P, D24 LA23_N, D26 LA26_P, D27 LA26_N, D29 TCK, D30 TDI, D31 TDO, D32 3P3VAUX, D33 TMS, D34 TRST_L, D35 GA1, D36 3P3V#4-D36, D38 3P3V#4-D38, D40 3P3V#4-D40
part C pins: G2 CLK0_C2M_P, G3 CLK0_C2M_N, G6 LA00_P_CC, G7 LA00_N_CC, G9 LA03_P, G10 LA03_N, G12 LA08_P, G13 LA08_N, G15 LA12_P, G16 LA12_N, G18 LA16_P, G19 LA16_N, G21 LA20_P, G22 LA20_N, G24 LA22_P, G25 LA22_N, G27 LA25_P, G28 LA25_N, G30 LA29_P, G31 LA29_N, G33 LA31_P, G34 LA31_N, G36 LA33_P, G37 LA33_N, G39 VADJ#7-G39
part D pins: H1 VREF_A_M2C, H2 PRSNT_M2C_L, H4 CLK0_M2C_P, H5 CLK0_M2C_N, H7 LA02_P, H8 LA02_N, H10 LA04_P, H11 LA04_N, H13 LA07_P, H14 LA07_N, H16 LA11_P, H17 LA11_N, H19 LA15_P, H20 LA15_N, H22 LA19_P, H23 LA19_N, H25 LA21_P, H26 LA21_N, H28 LA24_P, H29 LA24_N, H31 LA28_P, H32 LA28_N, H34 LA30_P, H35 LA30_N, H37 LA32_P, H38 LA32_N, H40 VADJ#8-H40
part E pins: A1 GND, A4 G#A4, A5 G#A5, A8 G#A8, A9 G#A9, A12 G#A12, A13 G#A13, A16 G#A16, A17 G#A17, A20 G#A20, A21 G#A21, A24 G#A24, A25 G#A25, A28 G#A28, A29 G#A29, A32 G#A32, A33 G#A33, A36 G#A36, A37 G#A37, A40 G#A40, B2 G#B2, B3 G#B3, B6 G#B6, B7 G#B7, B10 G#B10, B11 G#B11, B14 G#B14, B15 G#B15, B18 G#B18, B19 G#B19, B22 G#B22, B23 G#B23, B26 G#B26, B27 G#B27, B30 G#B30, B31 G#B31, B34 G#B34, B35 G#B35, B38 G#B38, B39 G#B39, C1 G#C1, C4 G#C4, C5 G#C5, C8 G#C8, C9 G#C9, C12 G#C12, C13 G#C13, C16 G#C16, C17 G#C17, C20 G#C20, C21 G#C21, C24 G#C24, C25 G#C25, C28 G#C28, C29 G#C29, C32 G#C32, C33 G#C33, C36 G#C36, C38 G#C38, C40 G#C40, D2 G#D2, D3 G#D3, D6 G#D6, D7 G#D7, D10 G#D10, D13 G#D13, D16 G#D16, D19 G#D19, D22 G#D22, D25 G#D25, D28 G#D28, D37 G#D37, D39 G#D39, E1 G#E1, E4 G#E4, E5 G#E5, E8 G#E8, E11 G#E11, E14 G#E14, E17 G#E17, E20 G#E20, E23 G#E23, E26 G#E26, E29 G#E29, E32 G#E32, E35 G#E35, E38 G#E38, E40 G#E40, F2 G#F2, F3 G#F3, F6 G#F6, F9 G#F9, F12 G#F12, F15 G#F15, F18 G#F18, F21 G#F21, F24 G#F24, F27 G#F27, F30 G#F30, F33 G#F33, F36 G#F36, F39 G#F39, G1 G#G1, G4 G#G4, G5 G#G5, G8 G#G8, G11 G#G11, G14 G#G14, G17 G#G17, G20 G#G20, G23 G#G23, G26 G#G26, G29 G#G29, G32 G#G32, G35 G#G35, G38 G#G38, G40 G#G40, H3 G#H3, H6 G#H6, H9 G#H9, H12 G#H12, H15 G#H15, H18 G#H18, H21 G#H21, H24 G#H24, H27 G#H27, H30 G#H30, H33 G#H33, H36 G#H36, H39 G#H39, J1 G#J1, J4 G#J4, J5 G#J5, J8 G#J8, J11 G#J11, J14 G#J14, J17 G#J17, J20 G#J20, J23 G#J23, J26 G#J26, J29 G#J29, J32 G#J32, J35 G#J35, J38 G#J38, J40 G#J40, K2 G#K2, K3 G#K3, K6 G#K6, K9 G#K9, K12 G#K12, K15 G#K15, K18 G#K18, K21 G#K21, K24 G#K24, K27 G#K27, K30 G#K30, K33 G#K33, K36 G#K36, K39 G#K39
part A text: C; LPC
part B text: D; LPC
part C text: G; LPC
part D text: H; LPC

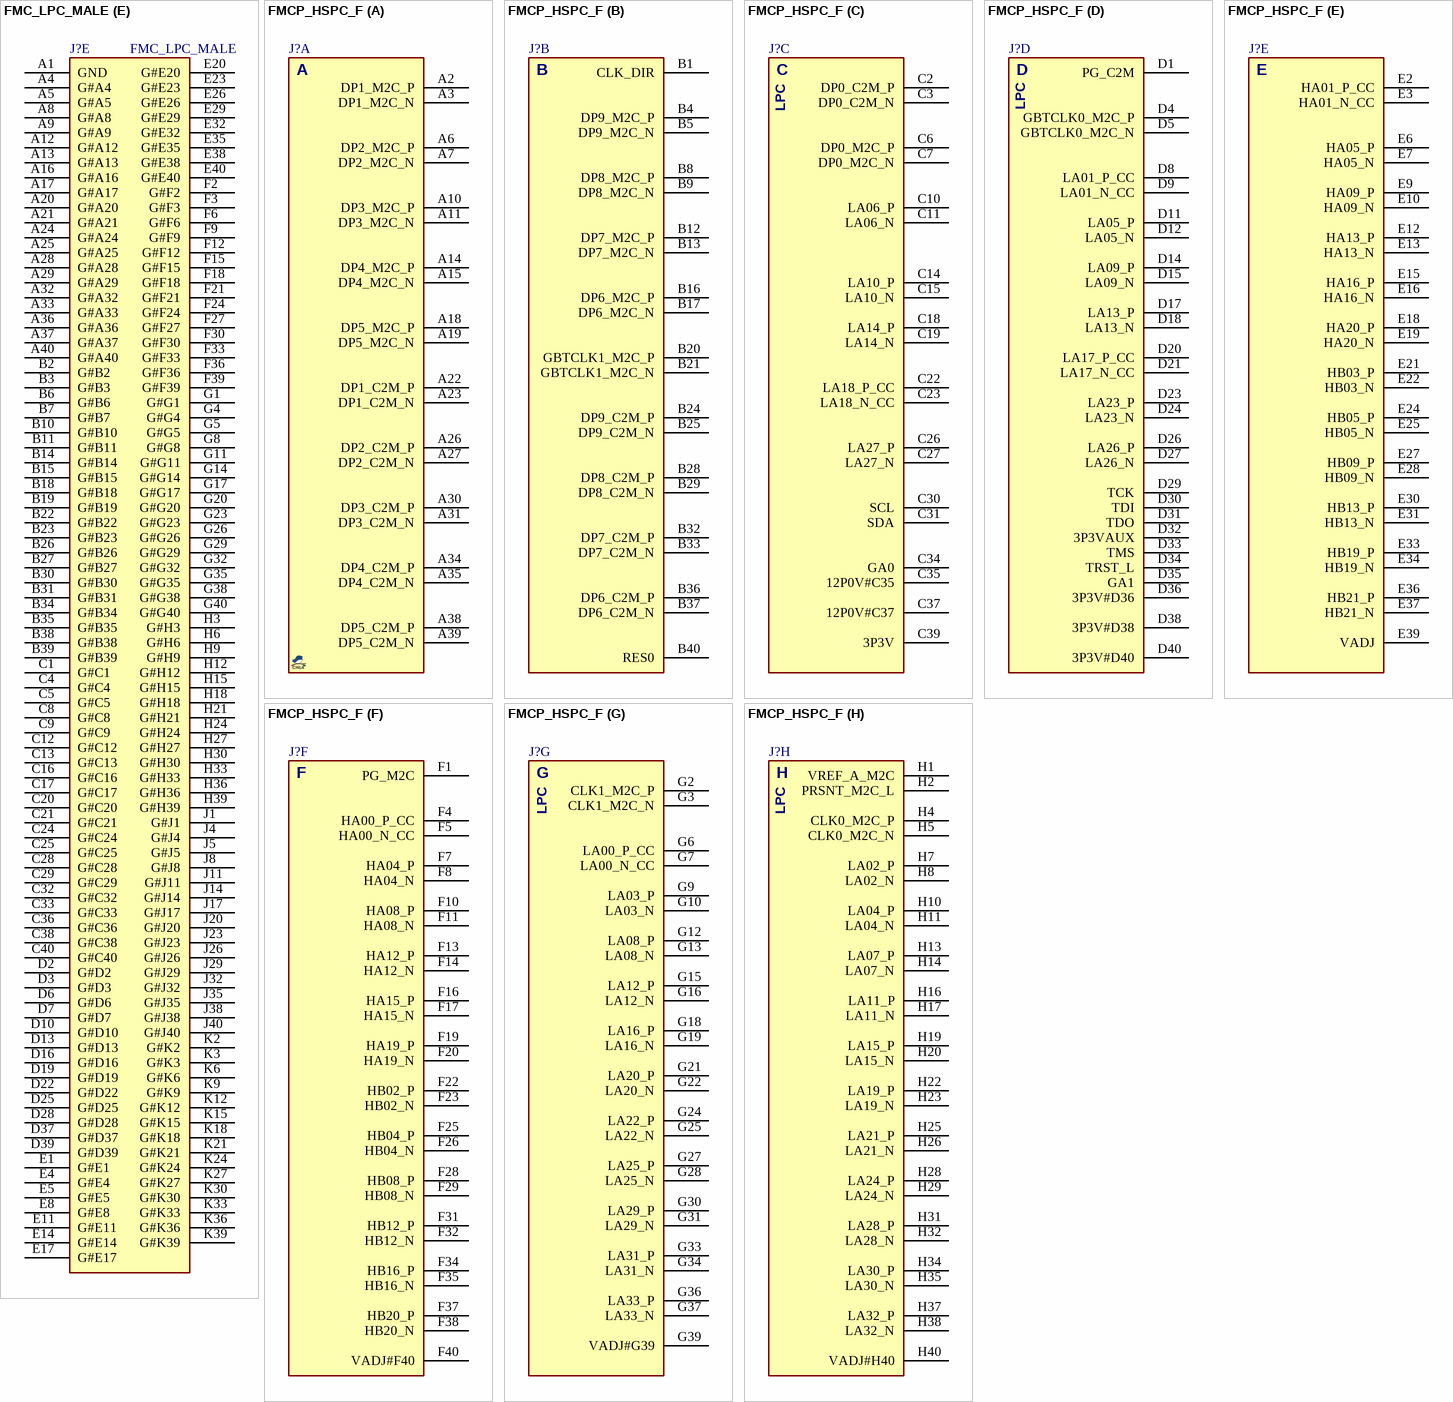
[diagram p5: symbols FMC_LPC_MALE to FMCP_HSPC_F]

## FMC_LPC_MALE
designator J?
CONN, FMC, LPC, 160PIN, MALE for Module; MANF: SAMTEC, MOLEX; MANF_P#: ASP-134604-01; PARAM: Module; VALUE: FMC_LPC_MALE
footprint FMC_LPC_M (Samtec FMC (FPGA mezzanine Card) LPC male, ASP-134604)
part A pins: C2 DP0_C2M_P, C3 DP0_C2M_N, C6 DP0_M2C_P, C7 DP0_M2C_N, C10 LA06_P, C11 LA06_N, C14 LA10_P, C15 LA10_N, C18 LA14_P, C19 LA14_N, C22 LA18_P_CC, C23 LA18_N_CC, C26 LA27_P, C27 LA27_N, C30 SCL, C31 SDA, C34 GA0, C35 12P0V, C37 12P0V#3-C37, C39 3P3V
part B pins: D1 PG_C2M, D4 GBTCLK0_M2C_P, D5 GBTCLK0_M2C_N, D8 LA01_P_CC, D9 LA01_N_CC, D11 LA05_P, D12 LA05_N, D14 LA09_P, D15 LA09_N, D17 LA13_P, D18 LA13_N, D20 LA17_P_CC, D21 LA17_N_CC, D23 LA23_P, D24 LA23_N, D26 LA26_P, D27 LA26_N, D29 TCK, D30 TDI, D31 TDO, D32 3P3VAUX, D33 TMS, D34 TRST_L, D35 GA1, D36 3P3V#4-D36, D38 3P3V#4-D38, D40 3P3V#4-D40
part C pins: G2 CLK0_C2M_P, G3 CLK0_C2M_N, G6 LA00_P_CC, G7 LA00_N_CC, G9 LA03_P, G10 LA03_N, G12 LA08_P, G13 LA08_N, G15 LA12_P, G16 LA12_N, G18 LA16_P, G19 LA16_N, G21 LA20_P, G22 LA20_N, G24 LA22_P, G25 LA22_N, G27 LA25_P, G28 LA25_N, G30 LA29_P, G31 LA29_N, G33 LA31_P, G34 LA31_N, G36 LA33_P, G37 LA33_N, G39 VADJ#7-G39
part D pins: H1 VREF_A_M2C, H2 PRSNT_M2C_L, H4 CLK0_M2C_P, H5 CLK0_M2C_N, H7 LA02_P, H8 LA02_N, H10 LA04_P, H11 LA04_N, H13 LA07_P, H14 LA07_N, H16 LA11_P, H17 LA11_N, H19 LA15_P, H20 LA15_N, H22 LA19_P, H23 LA19_N, H25 LA21_P, H26 LA21_N, H28 LA24_P, H29 LA24_N, H31 LA28_P, H32 LA28_N, H34 LA30_P, H35 LA30_N, H37 LA32_P, H38 LA32_N, H40 VADJ#8-H40
part E pins: A1 GND, A4 G#A4, A5 G#A5, A8 G#A8, A9 G#A9, A12 G#A12, A13 G#A13, A16 G#A16, A17 G#A17, A20 G#A20, A21 G#A21, A24 G#A24, A25 G#A25, A28 G#A28, A29 G#A29, A32 G#A32, A33 G#A33, A36 G#A36, A37 G#A37, A40 G#A40, B2 G#B2, B3 G#B3, B6 G#B6, B7 G#B7, B10 G#B10, B11 G#B11, B14 G#B14, B15 G#B15, B18 G#B18, B19 G#B19, B22 G#B22, B23 G#B23, B26 G#B26, B27 G#B27, B30 G#B30, B31 G#B31, B34 G#B34, B35 G#B35, B38 G#B38, B39 G#B39, C1 G#C1, C4 G#C4, C5 G#C5, C8 G#C8, C9 G#C9, C12 G#C12, C13 G#C13, C16 G#C16, C17 G#C17, C20 G#C20, C21 G#C21, C24 G#C24, C25 G#C25, C28 G#C28, C29 G#C29, C32 G#C32, C33 G#C33, C36 G#C36, C38 G#C38, C40 G#C40, D2 G#D2, D3 G#D3, D6 G#D6, D7 G#D7, D10 G#D10, D13 G#D13, D16 G#D16, D19 G#D19, D22 G#D22, D25 G#D25, D28 G#D28, D37 G#D37, D39 G#D39, E1 G#E1, E4 G#E4, E5 G#E5, E8 G#E8, E11 G#E11, E14 G#E14, E17 G#E17, E20 G#E20, E23 G#E23, E26 G#E26, E29 G#E29, E32 G#E32, E35 G#E35, E38 G#E38, E40 G#E40, F2 G#F2, F3 G#F3, F6 G#F6, F9 G#F9, F12 G#F12, F15 G#F15, F18 G#F18, F21 G#F21, F24 G#F24, F27 G#F27, F30 G#F30, F33 G#F33, F36 G#F36, F39 G#F39, G1 G#G1, G4 G#G4, G5 G#G5, G8 G#G8, G11 G#G11, G14 G#G14, G17 G#G17, G20 G#G20, G23 G#G23, G26 G#G26, G29 G#G29, G32 G#G32, G35 G#G35, G38 G#G38, G40 G#G40, H3 G#H3, H6 G#H6, H9 G#H9, H12 G#H12, H15 G#H15, H18 G#H18, H21 G#H21, H24 G#H24, H27 G#H27, H30 G#H30, H33 G#H33, H36 G#H36, H39 G#H39, J1 G#J1, J4 G#J4, J5 G#J5, J8 G#J8, J11 G#J11, J14 G#J14, J17 G#J17, J20 G#J20, J23 G#J23, J26 G#J26, J29 G#J29, J32 G#J32, J35 G#J35, J38 G#J38, J40 G#J40, K2 G#K2, K3 G#K3, K6 G#K6, K9 G#K9, K12 G#K12, K15 G#K15, K18 G#K18, K21 G#K21, K24 G#K24, K27 G#K27, K30 G#K30, K33 G#K33, K36 G#K36, K39 G#K39
part A text: C; LPC
part B text: D; LPC
part C text: G; LPC
part D text: H; LPC

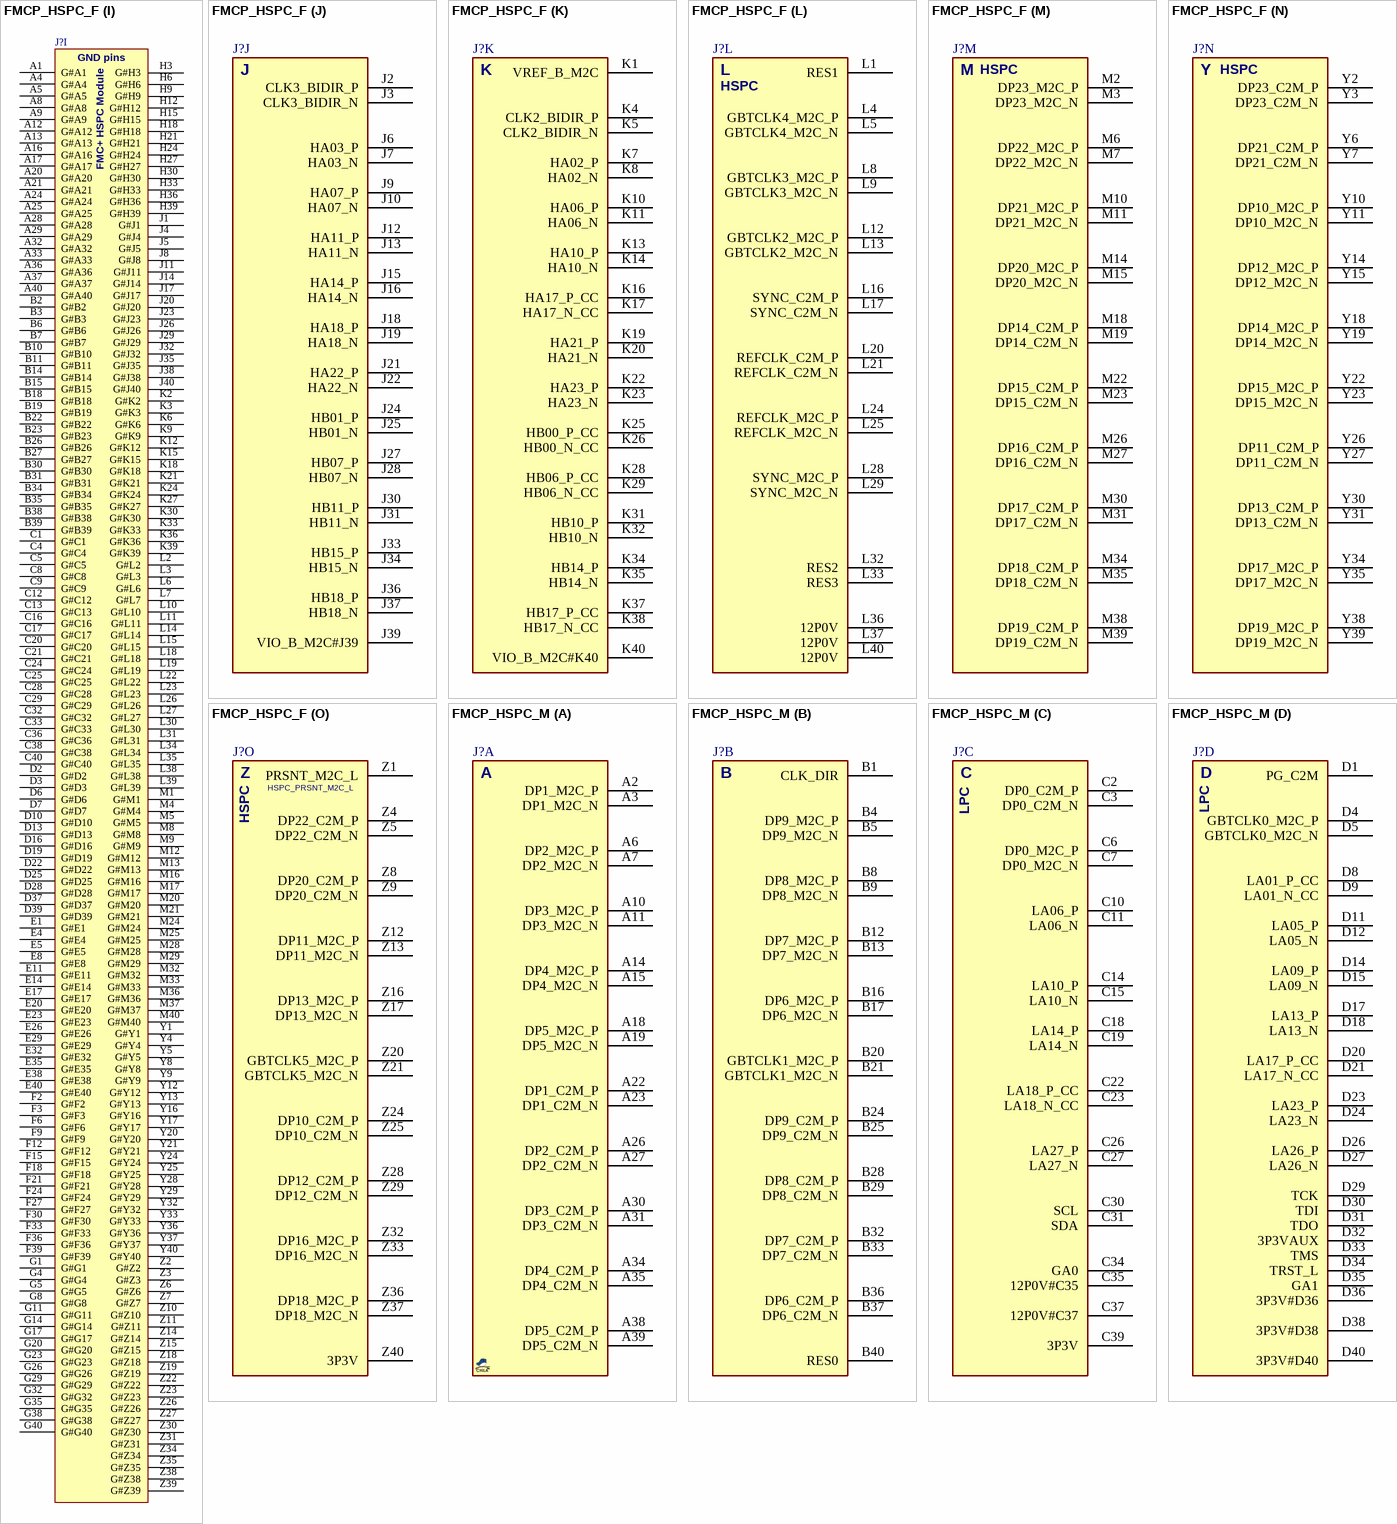
[diagram p6: symbols FMCP_HSPC_F to FMCP_HSPC_M]

## FMCP_HSPC_F
designator J?, comment FMC+_HSPC_F  (value not drawn)
CONN, FMC+, HSPC, 560PIN, FEMALE for Carrier; DESC: ASP-184330-01 for module/ ASP-184329-01 for carrier; MANF: SAMTEC, MOLEX; MANF_P#: ASP-184329-01; PARAM: HSPC, 560PIN, Module; PRICE: 32$; VALUE: FMC+_HSPC_F
footprint FMCP_HSPC_F (FMC+ Carrier HSPC female, asp-184329)
part A pins: A2 DP1_M2C_P, A3 DP1_M2C_N, A6 DP2_M2C_P, A7 DP2_M2C_N, A10 DP3_M2C_P, A11 DP3_M2C_N, A14 DP4_M2C_P, A15 DP4_M2C_N, A18 DP5_M2C_P, A19 DP5_M2C_N, A22 DP1_C2M_P, A23 DP1_C2M_N, A26 DP2_C2M_P, A27 DP2_C2M_N, A30 DP3_C2M_P, A31 DP3_C2M_N, A34 DP4_C2M_P, A35 DP4_C2M_N, A38 DP5_C2M_P, A39 DP5_C2M_N
part B pins: B1 CLK_DIR, B4 DP9_M2C_P, B5 DP9_M2C_N, B8 DP8_M2C_P, B9 DP8_M2C_N, B12 DP7_M2C_P, B13 DP7_M2C_N, B16 DP6_M2C_P, B17 DP6_M2C_N, B20 GBTCLK1_M2C_P, B21 GBTCLK1_M2C_N, B24 DP9_C2M_P, B25 DP9_C2M_N, B28 DP8_C2M_P, B29 DP8_C2M_N, B32 DP7_C2M_P, B33 DP7_C2M_N, B36 DP6_C2M_P, B37 DP6_C2M_N, B40 RES0
part C pins: C2 DP0_C2M_P, C3 DP0_C2M_N, C6 DP0_M2C_P, C7 DP0_M2C_N, C10 LA06_P, C11 LA06_N, C14 LA10_P, C15 LA10_N, C18 LA14_P, C19 LA14_N, C22 LA18_P_CC, C23 LA18_N_CC, C26 LA27_P, C27 LA27_N, C30 SCL, C31 SDA, C34 GA0, C35 12P0V#C35, C37 12P0V#C37, C39 3P3V
part D pins: D1 PG_C2M, D4 GBTCLK0_M2C_P, D5 GBTCLK0_M2C_N, D8 LA01_P_CC, D9 LA01_N_CC, D11 LA05_P, D12 LA05_N, D14 LA09_P, D15 LA09_N, D17 LA13_P, D18 LA13_N, D20 LA17_P_CC, D21 LA17_N_CC, D23 LA23_P, D24 LA23_N, D26 LA26_P, D27 LA26_N, D29 TCK, D30 TDI, D31 TDO, D32 3P3VAUX, D33 TMS, D34 TRST_L, D35 GA1, D36 3P3V#D36, D38 3P3V#D38, D40 3P3V#D40
part E pins: E2 HA01_P_CC, E3 HA01_N_CC, E6 HA05_P, E7 HA05_N, E9 HA09_P, E10 HA09_N, E12 HA13_P, E13 HA13_N, E15 HA16_P, E16 HA16_N, E18 HA20_P, E19 HA20_N, E21 HB03_P, E22 HB03_N, E24 HB05_P, E25 HB05_N, E27 HB09_P, E28 HB09_N, E30 HB13_P, E31 HB13_N, E33 HB19_P, E34 HB19_N, E36 HB21_P, E37 HB21_N, E39 VADJ
part F pins: F1 PG_M2C, F4 HA00_P_CC, F5 HA00_N_CC, F7 HA04_P, F8 HA04_N, F10 HA08_P, F11 HA08_N, F13 HA12_P, F14 HA12_N, F16 HA15_P, F17 HA15_N, F19 HA19_P, F20 HA19_N, F22 HB02_P, F23 HB02_N, F25 HB04_P, F26 HB04_N, F28 HB08_P, F29 HB08_N, F31 HB12_P, F32 HB12_N, F34 HB16_P, F35 HB16_N, F37 HB20_P, F38 HB20_N, F40 VADJ#F40
part G pins: G2 CLK1_M2C_P, G3 CLK1_M2C_N, G6 LA00_P_CC, G7 LA00_N_CC, G9 LA03_P, G10 LA03_N, G12 LA08_P, G13 LA08_N, G15 LA12_P, G16 LA12_N, G18 LA16_P, G19 LA16_N, G21 LA20_P, G22 LA20_N, G24 LA22_P, G25 LA22_N, G27 LA25_P, G28 LA25_N, G30 LA29_P, G31 LA29_N, G33 LA31_P, G34 LA31_N, G36 LA33_P, G37 LA33_N, G39 VADJ#G39
part H pins: H1 VREF_A_M2C, H2 PRSNT_M2C_L, H4 CLK0_M2C_P, H5 CLK0_M2C_N, H7 LA02_P, H8 LA02_N, H10 LA04_P, H11 LA04_N, H13 LA07_P, H14 LA07_N, H16 LA11_P, H17 LA11_N, H19 LA15_P, H20 LA15_N, H22 LA19_P, H23 LA19_N, H25 LA21_P, H26 LA21_N, H28 LA24_P, H29 LA24_N, H31 LA28_P, H32 LA28_N, H34 LA30_P, H35 LA30_N, H37 LA32_P, H38 LA32_N, H40 VADJ#H40
part I pins: A1 G#A1, A4 G#A4, A5 G#A5, A8 G#A8, A9 G#A9, A12 G#A12, A13 G#A13, A16 G#A16, A17 G#A17, A20 G#A20, A21 G#A21, A24 G#A24, A25 G#A25, A28 G#A28, A29 G#A29, A32 G#A32, A33 G#A33, A36 G#A36, A37 G#A37, A40 G#A40, B2 G#B2, B3 G#B3, B6 G#B6, B7 G#B7, B10 G#B10, B11 G#B11, B14 G#B14, B15 G#B15, B18 G#B18, B19 G#B19, B22 G#B22, B23 G#B23, B26 G#B26, B27 G#B27, B30 G#B30, B31 G#B31, B34 G#B34, B35 G#B35, B38 G#B38, B39 G#B39, C1 G#C1, C4 G#C4, C5 G#C5, C8 G#C8, C9 G#C9, C12 G#C12, C13 G#C13, C16 G#C16, C17 G#C17, C20 G#C20, C21 G#C21, C24 G#C24, C25 G#C25, C28 G#C28, C29 G#C29, C32 G#C32, C33 G#C33, C36 G#C36, C38 G#C38, C40 G#C40, D2 G#D2, D3 G#D3, D6 G#D6, D7 G#D7, D10 G#D10, D13 G#D13, D16 G#D16, D19 G#D19, D22 G#D22, D25 G#D25, D28 G#D28, D37 G#D37, D39 G#D39, E1 G#E1, E4 G#E4, E5 G#E5, E8 G#E8, E11 G#E11, E14 G#E14, E17 G#E17, E20 G#E20, E23 G#E23, E26 G#E26, E29 G#E29, E32 G#E32, E35 G#E35, E38 G#E38, E40 G#E40, F2 G#F2, F3 G#F3, F6 G#F6, F9 G#F9, F12 G#F12, F15 G#F15, F18 G#F18, F21 G#F21, F24 G#F24, F27 G#F27, F30 G#F30, F33 G#F33, F36 G#F36, F39 G#F39, G1 G#G1, G4 G#G4, G5 G#G5, G8 G#G8, G11 G#G11, G14 G#G14, G17 G#G17, G20 G#G20, G23 G#G23, G26 G#G26, G29 G#G29, G32 G#G32, G35 G#G35, G38 G#G38, G40 G#G40, H3 G#H3, H6 G#H6, H9 G#H9, H12 G#H12, H15 G#H15, H18 G#H18, H21 G#H21, H24 G#H24, H27 G#H27, H30 G#H30, H33 G#H33, H36 G#H36, H39 G#H39, J1 G#J1, J4 G#J4, J5 G#J5, J8 G#J8, J11 G#J11, J14 G#J14, J17 G#J17, J20 G#J20, J23 G#J23, J26 G#J26, J29 G#J29, J32 G#J32, J35 G#J35, J38 G#J38, J40 G#J40, K2 G#K2, K3 G#K3, K6 G#K6, K9 G#K9, K12 G#K12, K15 G#K15, K18 G#K18, K21 G#K21, K24 G#K24, K27 G#K27, K30 G#K30, K33 G#K33, K36 G#K36, K39 G#K39, L2 G#L2, L3 G#L3, L6 G#L6, L7 G#L7, L10 G#L10, L11 G#L11, L14 G#L14, L15 G#L15, L18 G#L18, L19 G#L19, L22 G#L22, L23 G#L23, L26 G#L26, L27 G#L27, L30 G#L30, L31 G#L31, L34 G#L34, L35 G#L35, L38 G#L38, L39 G#L39, M1 G#M1, M4 G#M4, M5 G#M5, M8 G#M8, M9 G#M9, M12 G#M12, M13 G#M13, M16 G#M16, M17 G#M17, M20 G#M20, M21 G#M21, M24 G#M24, M25 G#M25, M28 G#M28, M29 G#M29, M32 G#M32, M33 G#M33, M36 G#M36, M37 G#M37, M40 G#M40, Y1 G#Y1, Y4 G#Y4, Y5 G#Y5, Y8 G#Y8, Y9 G#Y9, Y12 G#Y12, Y13 G#Y13, Y16 G#Y16, Y17 G#Y17, Y20 G#Y20, Y21 G#Y21, Y24 G#Y24, Y25 G#Y25, Y28 G#Y28, Y29 G#Y29, Y32 G#Y32, Y33 G#Y33, Y36 G#Y36, Y37 G#Y37, Y40 G#Y40, Z2 G#Z2, Z3 G#Z3, Z6 G#Z6, Z7 G#Z7, Z10 G#Z10, Z11 G#Z11, Z14 G#Z14, Z15 G#Z15, Z18 G#Z18, Z19 G#Z19, Z22 G#Z22, Z23 G#Z23, Z26 G#Z26, Z27 G#Z27, Z30 G#Z30, Z31 G#Z31, Z34 G#Z34, Z35 G#Z35, Z38 G#Z38, Z39 G#Z39
part J pins: J2 CLK3_BIDIR_P, J3 CLK3_BIDIR_N, J6 HA03_P, J7 HA03_N, J9 HA07_P, J10 HA07_N, J12 HA11_P, J13 HA11_N, J15 HA14_P, J16 HA14_N, J18 HA18_P, J19 HA18_N, J21 HA22_P, J22 HA22_N, J24 HB01_P, J25 HB01_N, J27 HB07_P, J28 HB07_N, J30 HB11_P, J31 HB11_N, J33 HB15_P, J34 HB15_N, J36 HB18_P, J37 HB18_N, J39 VIO_B_M2C#J39
part K pins: K1 VREF_B_M2C, K4 CLK2_BIDIR_P, K5 CLK2_BIDIR_N, K7 HA02_P, K8 HA02_N, K10 HA06_P, K11 HA06_N, K13 HA10_P, K14 HA10_N, K16 HA17_P_CC, K17 HA17_N_CC, K19 HA21_P, K20 HA21_N, K22 HA23_P, K23 HA23_N, K25 HB00_P_CC, K26 HB00_N_CC, K28 HB06_P_CC, K29 HB06_N_CC, K31 HB10_P, K32 HB10_N, K34 HB14_P, K35 HB14_N, K37 HB17_P_CC, K38 HB17_N_CC, K40 VIO_B_M2C#K40
part L pins: L1 RES1, L4 GBTCLK4_M2C_P, L5 GBTCLK4_M2C_N, L8 GBTCLK3_M2C_P, L9 GBTCLK3_M2C_N, L12 GBTCLK2_M2C_P, L13 GBTCLK2_M2C_N, L16 SYNC_C2M_P, L17 SYNC_C2M_N, L20 REFCLK_C2M_P, L21 REFCLK_C2M_N, L24 REFCLK_M2C_P, L25 REFCLK_M2C_N, L28 SYNC_M2C_P, L29 SYNC_M2C_N, L32 RES2, L33 RES3, L36 12P0V, L37 12P0V, L40 12P0V
part M pins: M2 DP23_M2C_P, M3 DP23_M2C_N, M6 DP22_M2C_P, M7 DP22_M2C_N, M10 DP21_M2C_P, M11 DP21_M2C_N, M14 DP20_M2C_P, M15 DP20_M2C_N, M18 DP14_C2M_P, M19 DP14_C2M_N, M22 DP15_C2M_P, M23 DP15_C2M_N, M26 DP16_C2M_P, M27 DP16_C2M_N, M30 DP17_C2M_P, M31 DP17_C2M_N, M34 DP18_C2M_P, M35 DP18_C2M_N, M38 DP19_C2M_P, M39 DP19_C2M_N
part N pins: Y2 DP23_C2M_P, Y3 DP23_C2M_N, Y6 DP21_C2M_P, Y7 DP21_C2M_N, Y10 DP10_M2C_P, Y11 DP10_M2C_N, Y14 DP12_M2C_P, Y15 DP12_M2C_N, Y18 DP14_M2C_P, Y19 DP14_M2C_N, Y22 DP15_M2C_P, Y23 DP15_M2C_N, Y26 DP11_C2M_P, Y27 DP11_C2M_N, Y30 DP13_C2M_P, Y31 DP13_C2M_N, Y34 DP17_M2C_P, Y35 DP17_M2C_N, Y38 DP19_M2C_P, Y39 DP19_M2C_N
part O pins: Z1 PRSNT_M2C_L, Z4 DP22_C2M_P, Z5 DP22_C2M_N, Z8 DP20_C2M_P, Z9 DP20_C2M_N, Z12 DP11_M2C_P, Z13 DP11_M2C_N, Z16 DP13_M2C_P, Z17 DP13_M2C_N, Z20 GBTCLK5_M2C_P, Z21 GBTCLK5_M2C_N, Z24 DP10_C2M_P, Z25 DP10_C2M_N, Z28 DP12_C2M_P, Z29 DP12_C2M_N, Z32 DP16_M2C_P, Z33 DP16_M2C_N, Z36 DP18_M2C_P, Z37 DP18_M2C_N, Z40 3P3V
part A text: A
part B text: B
part C text: C; LPC
part D text: D; LPC
part E text: E
part F text: F
part G text: G; LPC
part H text: H; LPC
part I text: GND pins; FMC+ HSPC Module
part J text: J
part K text: K
part L text: L; HSPC
part M text: M; HSPC
part N text: Y; HSPC
part O text: Z; HSPC_PRSNT_M2C_L; HSPC

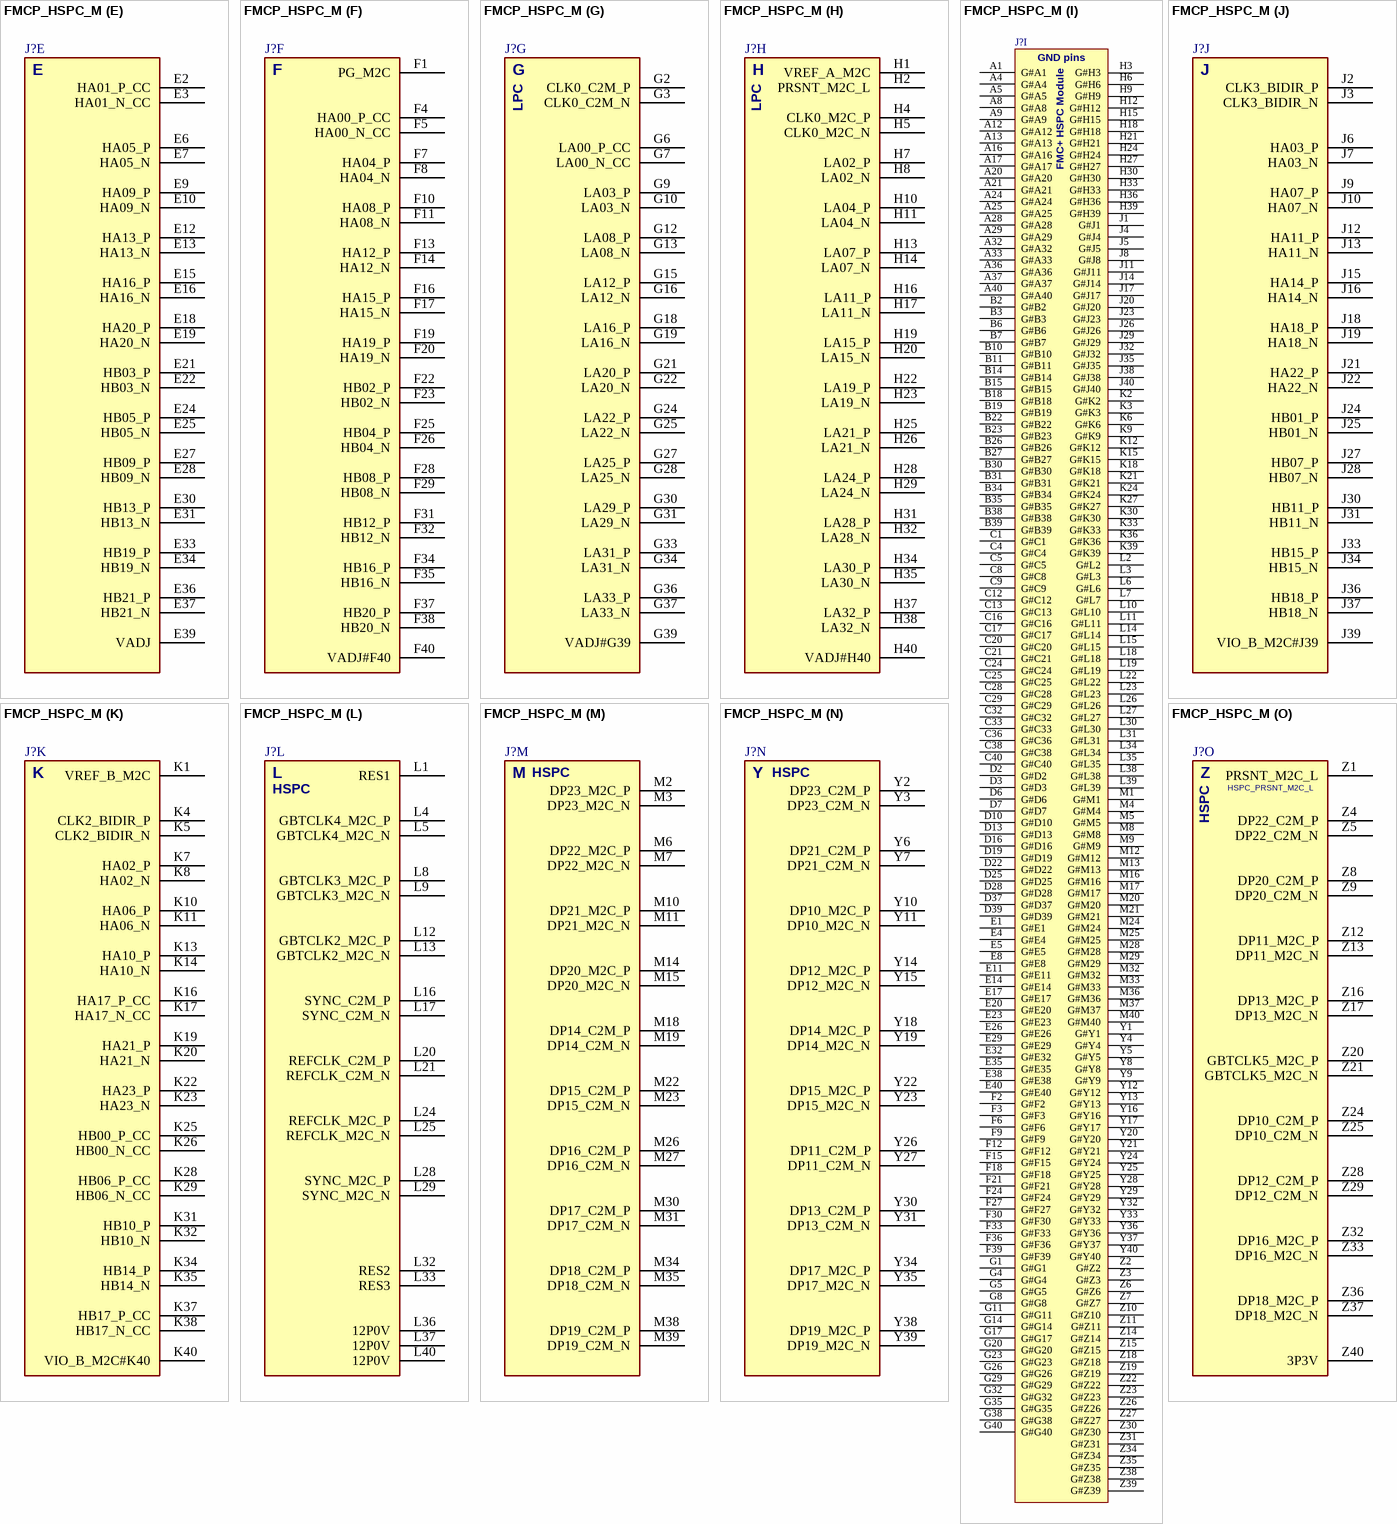
[diagram p7: symbol FMCP_HSPC_M]

## FMCP_HSPC_M
designator J?, comment FMC+_HSPC_M  (value not drawn)
CONN, FMC+, HSPC, 560PIN, MALE for Module; DESC: ASP-184330-01 for module/ asp-184329-01 for carrier; MANF: SAMTEC, MOLEX; MANF_P#: ASP-184330-01; PARAM: HSPC, 560PIN, Module; PRICE: 32$; VALUE: FMC+_HSPC_M
footprint FMCP_HSPC_M (FMC+ Module HSPC male, asp-184330)
part A pins: A2 DP1_M2C_P, A3 DP1_M2C_N, A6 DP2_M2C_P, A7 DP2_M2C_N, A10 DP3_M2C_P, A11 DP3_M2C_N, A14 DP4_M2C_P, A15 DP4_M2C_N, A18 DP5_M2C_P, A19 DP5_M2C_N, A22 DP1_C2M_P, A23 DP1_C2M_N, A26 DP2_C2M_P, A27 DP2_C2M_N, A30 DP3_C2M_P, A31 DP3_C2M_N, A34 DP4_C2M_P, A35 DP4_C2M_N, A38 DP5_C2M_P, A39 DP5_C2M_N
part B pins: B1 CLK_DIR, B4 DP9_M2C_P, B5 DP9_M2C_N, B8 DP8_M2C_P, B9 DP8_M2C_N, B12 DP7_M2C_P, B13 DP7_M2C_N, B16 DP6_M2C_P, B17 DP6_M2C_N, B20 GBTCLK1_M2C_P, B21 GBTCLK1_M2C_N, B24 DP9_C2M_P, B25 DP9_C2M_N, B28 DP8_C2M_P, B29 DP8_C2M_N, B32 DP7_C2M_P, B33 DP7_C2M_N, B36 DP6_C2M_P, B37 DP6_C2M_N, B40 RES0
part C pins: C2 DP0_C2M_P, C3 DP0_C2M_N, C6 DP0_M2C_P, C7 DP0_M2C_N, C10 LA06_P, C11 LA06_N, C14 LA10_P, C15 LA10_N, C18 LA14_P, C19 LA14_N, C22 LA18_P_CC, C23 LA18_N_CC, C26 LA27_P, C27 LA27_N, C30 SCL, C31 SDA, C34 GA0, C35 12P0V#C35, C37 12P0V#C37, C39 3P3V
part D pins: D1 PG_C2M, D4 GBTCLK0_M2C_P, D5 GBTCLK0_M2C_N, D8 LA01_P_CC, D9 LA01_N_CC, D11 LA05_P, D12 LA05_N, D14 LA09_P, D15 LA09_N, D17 LA13_P, D18 LA13_N, D20 LA17_P_CC, D21 LA17_N_CC, D23 LA23_P, D24 LA23_N, D26 LA26_P, D27 LA26_N, D29 TCK, D30 TDI, D31 TDO, D32 3P3VAUX, D33 TMS, D34 TRST_L, D35 GA1, D36 3P3V#D36, D38 3P3V#D38, D40 3P3V#D40
part E pins: E2 HA01_P_CC, E3 HA01_N_CC, E6 HA05_P, E7 HA05_N, E9 HA09_P, E10 HA09_N, E12 HA13_P, E13 HA13_N, E15 HA16_P, E16 HA16_N, E18 HA20_P, E19 HA20_N, E21 HB03_P, E22 HB03_N, E24 HB05_P, E25 HB05_N, E27 HB09_P, E28 HB09_N, E30 HB13_P, E31 HB13_N, E33 HB19_P, E34 HB19_N, E36 HB21_P, E37 HB21_N, E39 VADJ
part F pins: F1 PG_M2C, F4 HA00_P_CC, F5 HA00_N_CC, F7 HA04_P, F8 HA04_N, F10 HA08_P, F11 HA08_N, F13 HA12_P, F14 HA12_N, F16 HA15_P, F17 HA15_N, F19 HA19_P, F20 HA19_N, F22 HB02_P, F23 HB02_N, F25 HB04_P, F26 HB04_N, F28 HB08_P, F29 HB08_N, F31 HB12_P, F32 HB12_N, F34 HB16_P, F35 HB16_N, F37 HB20_P, F38 HB20_N, F40 VADJ#F40
part G pins: G2 CLK0_C2M_P, G3 CLK0_C2M_N, G6 LA00_P_CC, G7 LA00_N_CC, G9 LA03_P, G10 LA03_N, G12 LA08_P, G13 LA08_N, G15 LA12_P, G16 LA12_N, G18 LA16_P, G19 LA16_N, G21 LA20_P, G22 LA20_N, G24 LA22_P, G25 LA22_N, G27 LA25_P, G28 LA25_N, G30 LA29_P, G31 LA29_N, G33 LA31_P, G34 LA31_N, G36 LA33_P, G37 LA33_N, G39 VADJ#G39
part H pins: H1 VREF_A_M2C, H2 PRSNT_M2C_L, H4 CLK0_M2C_P, H5 CLK0_M2C_N, H7 LA02_P, H8 LA02_N, H10 LA04_P, H11 LA04_N, H13 LA07_P, H14 LA07_N, H16 LA11_P, H17 LA11_N, H19 LA15_P, H20 LA15_N, H22 LA19_P, H23 LA19_N, H25 LA21_P, H26 LA21_N, H28 LA24_P, H29 LA24_N, H31 LA28_P, H32 LA28_N, H34 LA30_P, H35 LA30_N, H37 LA32_P, H38 LA32_N, H40 VADJ#H40
part I pins: A1 G#A1, A4 G#A4, A5 G#A5, A8 G#A8, A9 G#A9, A12 G#A12, A13 G#A13, A16 G#A16, A17 G#A17, A20 G#A20, A21 G#A21, A24 G#A24, A25 G#A25, A28 G#A28, A29 G#A29, A32 G#A32, A33 G#A33, A36 G#A36, A37 G#A37, A40 G#A40, B2 G#B2, B3 G#B3, B6 G#B6, B7 G#B7, B10 G#B10, B11 G#B11, B14 G#B14, B15 G#B15, B18 G#B18, B19 G#B19, B22 G#B22, B23 G#B23, B26 G#B26, B27 G#B27, B30 G#B30, B31 G#B31, B34 G#B34, B35 G#B35, B38 G#B38, B39 G#B39, C1 G#C1, C4 G#C4, C5 G#C5, C8 G#C8, C9 G#C9, C12 G#C12, C13 G#C13, C16 G#C16, C17 G#C17, C20 G#C20, C21 G#C21, C24 G#C24, C25 G#C25, C28 G#C28, C29 G#C29, C32 G#C32, C33 G#C33, C36 G#C36, C38 G#C38, C40 G#C40, D2 G#D2, D3 G#D3, D6 G#D6, D7 G#D7, D10 G#D10, D13 G#D13, D16 G#D16, D19 G#D19, D22 G#D22, D25 G#D25, D28 G#D28, D37 G#D37, D39 G#D39, E1 G#E1, E4 G#E4, E5 G#E5, E8 G#E8, E11 G#E11, E14 G#E14, E17 G#E17, E20 G#E20, E23 G#E23, E26 G#E26, E29 G#E29, E32 G#E32, E35 G#E35, E38 G#E38, E40 G#E40, F2 G#F2, F3 G#F3, F6 G#F6, F9 G#F9, F12 G#F12, F15 G#F15, F18 G#F18, F21 G#F21, F24 G#F24, F27 G#F27, F30 G#F30, F33 G#F33, F36 G#F36, F39 G#F39, G1 G#G1, G4 G#G4, G5 G#G5, G8 G#G8, G11 G#G11, G14 G#G14, G17 G#G17, G20 G#G20, G23 G#G23, G26 G#G26, G29 G#G29, G32 G#G32, G35 G#G35, G38 G#G38, G40 G#G40, H3 G#H3, H6 G#H6, H9 G#H9, H12 G#H12, H15 G#H15, H18 G#H18, H21 G#H21, H24 G#H24, H27 G#H27, H30 G#H30, H33 G#H33, H36 G#H36, H39 G#H39, J1 G#J1, J4 G#J4, J5 G#J5, J8 G#J8, J11 G#J11, J14 G#J14, J17 G#J17, J20 G#J20, J23 G#J23, J26 G#J26, J29 G#J29, J32 G#J32, J35 G#J35, J38 G#J38, J40 G#J40, K2 G#K2, K3 G#K3, K6 G#K6, K9 G#K9, K12 G#K12, K15 G#K15, K18 G#K18, K21 G#K21, K24 G#K24, K27 G#K27, K30 G#K30, K33 G#K33, K36 G#K36, K39 G#K39, L2 G#L2, L3 G#L3, L6 G#L6, L7 G#L7, L10 G#L10, L11 G#L11, L14 G#L14, L15 G#L15, L18 G#L18, L19 G#L19, L22 G#L22, L23 G#L23, L26 G#L26, L27 G#L27, L30 G#L30, L31 G#L31, L34 G#L34, L35 G#L35, L38 G#L38, L39 G#L39, M1 G#M1, M4 G#M4, M5 G#M5, M8 G#M8, M9 G#M9, M12 G#M12, M13 G#M13, M16 G#M16, M17 G#M17, M20 G#M20, M21 G#M21, M24 G#M24, M25 G#M25, M28 G#M28, M29 G#M29, M32 G#M32, M33 G#M33, M36 G#M36, M37 G#M37, M40 G#M40, Y1 G#Y1, Y4 G#Y4, Y5 G#Y5, Y8 G#Y8, Y9 G#Y9, Y12 G#Y12, Y13 G#Y13, Y16 G#Y16, Y17 G#Y17, Y20 G#Y20, Y21 G#Y21, Y24 G#Y24, Y25 G#Y25, Y28 G#Y28, Y29 G#Y29, Y32 G#Y32, Y33 G#Y33, Y36 G#Y36, Y37 G#Y37, Y40 G#Y40, Z2 G#Z2, Z3 G#Z3, Z6 G#Z6, Z7 G#Z7, Z10 G#Z10, Z11 G#Z11, Z14 G#Z14, Z15 G#Z15, Z18 G#Z18, Z19 G#Z19, Z22 G#Z22, Z23 G#Z23, Z26 G#Z26, Z27 G#Z27, Z30 G#Z30, Z31 G#Z31, Z34 G#Z34, Z35 G#Z35, Z38 G#Z38, Z39 G#Z39
part J pins: J2 CLK3_BIDIR_P, J3 CLK3_BIDIR_N, J6 HA03_P, J7 HA03_N, J9 HA07_P, J10 HA07_N, J12 HA11_P, J13 HA11_N, J15 HA14_P, J16 HA14_N, J18 HA18_P, J19 HA18_N, J21 HA22_P, J22 HA22_N, J24 HB01_P, J25 HB01_N, J27 HB07_P, J28 HB07_N, J30 HB11_P, J31 HB11_N, J33 HB15_P, J34 HB15_N, J36 HB18_P, J37 HB18_N, J39 VIO_B_M2C#J39
part K pins: K1 VREF_B_M2C, K4 CLK2_BIDIR_P, K5 CLK2_BIDIR_N, K7 HA02_P, K8 HA02_N, K10 HA06_P, K11 HA06_N, K13 HA10_P, K14 HA10_N, K16 HA17_P_CC, K17 HA17_N_CC, K19 HA21_P, K20 HA21_N, K22 HA23_P, K23 HA23_N, K25 HB00_P_CC, K26 HB00_N_CC, K28 HB06_P_CC, K29 HB06_N_CC, K31 HB10_P, K32 HB10_N, K34 HB14_P, K35 HB14_N, K37 HB17_P_CC, K38 HB17_N_CC, K40 VIO_B_M2C#K40
part L pins: L1 RES1, L4 GBTCLK4_M2C_P, L5 GBTCLK4_M2C_N, L8 GBTCLK3_M2C_P, L9 GBTCLK3_M2C_N, L12 GBTCLK2_M2C_P, L13 GBTCLK2_M2C_N, L16 SYNC_C2M_P, L17 SYNC_C2M_N, L20 REFCLK_C2M_P, L21 REFCLK_C2M_N, L24 REFCLK_M2C_P, L25 REFCLK_M2C_N, L28 SYNC_M2C_P, L29 SYNC_M2C_N, L32 RES2, L33 RES3, L36 12P0V, L37 12P0V, L40 12P0V
part M pins: M2 DP23_M2C_P, M3 DP23_M2C_N, M6 DP22_M2C_P, M7 DP22_M2C_N, M10 DP21_M2C_P, M11 DP21_M2C_N, M14 DP20_M2C_P, M15 DP20_M2C_N, M18 DP14_C2M_P, M19 DP14_C2M_N, M22 DP15_C2M_P, M23 DP15_C2M_N, M26 DP16_C2M_P, M27 DP16_C2M_N, M30 DP17_C2M_P, M31 DP17_C2M_N, M34 DP18_C2M_P, M35 DP18_C2M_N, M38 DP19_C2M_P, M39 DP19_C2M_N
part N pins: Y2 DP23_C2M_P, Y3 DP23_C2M_N, Y6 DP21_C2M_P, Y7 DP21_C2M_N, Y10 DP10_M2C_P, Y11 DP10_M2C_N, Y14 DP12_M2C_P, Y15 DP12_M2C_N, Y18 DP14_M2C_P, Y19 DP14_M2C_N, Y22 DP15_M2C_P, Y23 DP15_M2C_N, Y26 DP11_C2M_P, Y27 DP11_C2M_N, Y30 DP13_C2M_P, Y31 DP13_C2M_N, Y34 DP17_M2C_P, Y35 DP17_M2C_N, Y38 DP19_M2C_P, Y39 DP19_M2C_N
part O pins: Z1 PRSNT_M2C_L, Z4 DP22_C2M_P, Z5 DP22_C2M_N, Z8 DP20_C2M_P, Z9 DP20_C2M_N, Z12 DP11_M2C_P, Z13 DP11_M2C_N, Z16 DP13_M2C_P, Z17 DP13_M2C_N, Z20 GBTCLK5_M2C_P, Z21 GBTCLK5_M2C_N, Z24 DP10_C2M_P, Z25 DP10_C2M_N, Z28 DP12_C2M_P, Z29 DP12_C2M_N, Z32 DP16_M2C_P, Z33 DP16_M2C_N, Z36 DP18_M2C_P, Z37 DP18_M2C_N, Z40 3P3V
part A text: A
part B text: B
part C text: C; LPC
part D text: D; LPC
part E text: E
part F text: F
part G text: G; LPC
part H text: H; LPC
part I text: GND pins; FMC+ HSPC Module
part J text: J
part K text: K
part L text: L; HSPC
part M text: M; HSPC
part N text: Y; HSPC
part O text: Z; HSPC_PRSNT_M2C_L; HSPC

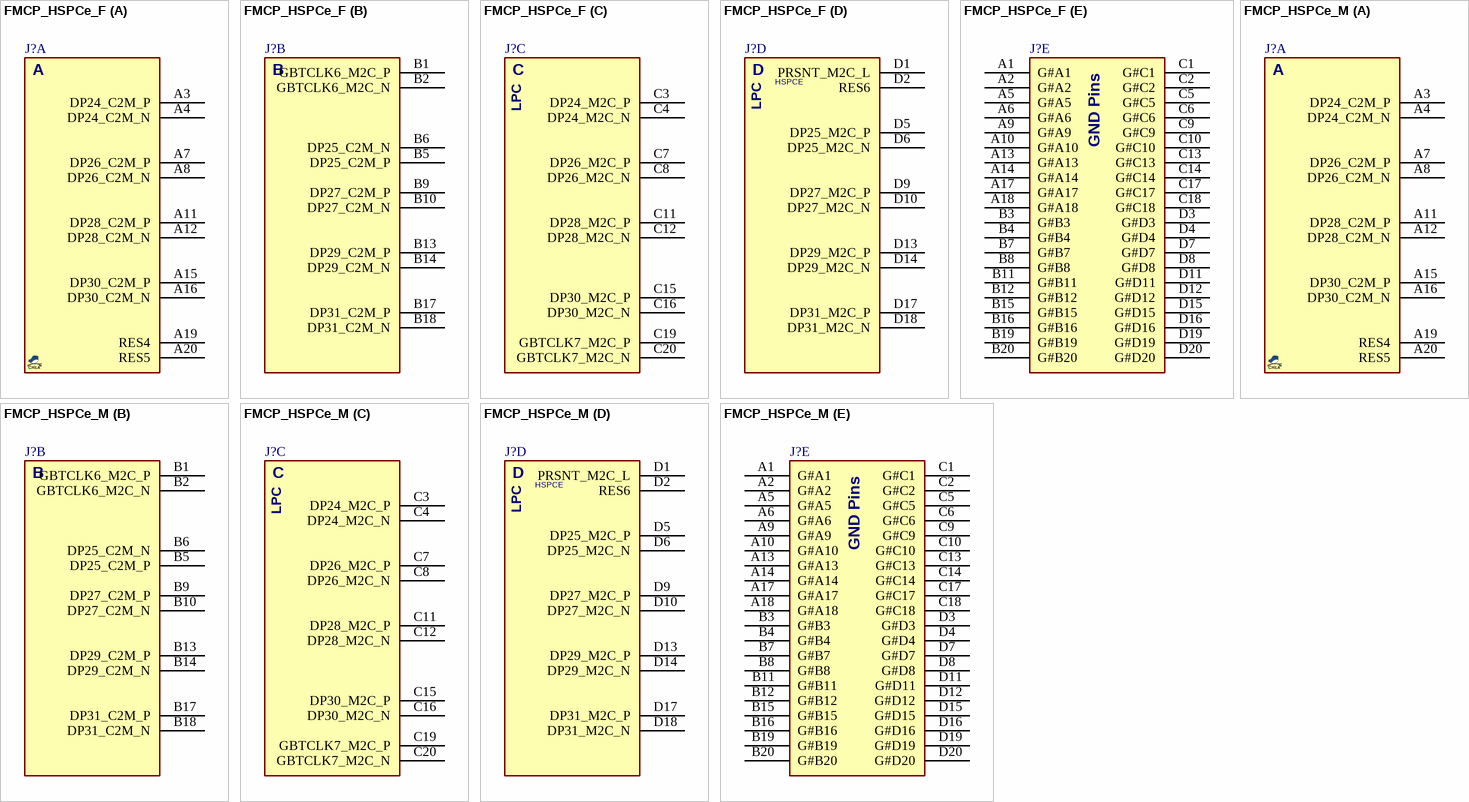
[diagram p8: symbols FMCP_HSPCe_F to FMCP_HSPCe_M]

## FMCP_HSPCe_F
designator J?, comment FMC+_HSPCe_F  (value not drawn)
CONN, FMC+ HSPCe, 80PIN, FEMALE for Carrier; DESC: ASP-186900-01 for module/ ASP-186899-01 for carrier; MANF: SAMTEC, MOLEX; MANF_P#: ASP-186900-01; PARAM: FMC+ HSPCe, 80PIN, Carrier; PRICE: 11$; VALUE: FMC+_HSPCe_F
footprint FMCP_HSPCE_F (FMC+ Carrier HSPCe male, ASP-186899)
part A pins: A3 DP24_C2M_P, A4 DP24_C2M_N, A7 DP26_C2M_P, A8 DP26_C2M_N, A11 DP28_C2M_P, A12 DP28_C2M_N, A15 DP30_C2M_P, A16 DP30_C2M_N, A19 RES4, A20 RES5
part B pins: B1 GBTCLK6_M2C_P, B2 GBTCLK6_M2C_N, B5 DP25_C2M_P, B6 DP25_C2M_N, B9 DP27_C2M_P, B10 DP27_C2M_N, B13 DP29_C2M_P, B14 DP29_C2M_N, B17 DP31_C2M_P, B18 DP31_C2M_N
part C pins: C3 DP24_M2C_P, C4 DP24_M2C_N, C7 DP26_M2C_P, C8 DP26_M2C_N, C11 DP28_M2C_P, C12 DP28_M2C_N, C15 DP30_M2C_P, C16 DP30_M2C_N, C19 GBTCLK7_M2C_P, C20 GBTCLK7_M2C_N
part D pins: D1 PRSNT_M2C_L, D2 RES6, D5 DP25_M2C_P, D6 DP25_M2C_N, D9 DP27_M2C_P, D10 DP27_M2C_N, D13 DP29_M2C_P, D14 DP29_M2C_N, D17 DP31_M2C_P, D18 DP31_M2C_N
part E pins: A1 G#A1, A2 G#A2, A5 G#A5, A6 G#A6, A9 G#A9, A10 G#A10, A13 G#A13, A14 G#A14, A17 G#A17, A18 G#A18, B3 G#B3, B4 G#B4, B7 G#B7, B8 G#B8, B11 G#B11, B12 G#B12, B15 G#B15, B16 G#B16, B19 G#B19, B20 G#B20, C1 G#C1, C2 G#C2, C5 G#C5, C6 G#C6, C9 G#C9, C10 G#C10, C13 G#C13, C14 G#C14, C17 G#C17, C18 G#C18, D3 G#D3, D4 G#D4, D7 G#D7, D8 G#D8, D11 G#D11, D12 G#D12, D15 G#D15, D16 G#D16, D19 G#D19, D20 G#D20
part A text: A
part B text: B
part C text: C; LPC
part D text: D; HSPCE; LPC
part E text: GND Pins

## FMCP_HSPCe_M
designator J?, comment FMC+_HSPC_M  (value not drawn)
CONN, FMC+ HSPCe, 80PIN, MALE for Module; DESC: ASP-186900-01 for module/ ASP-186899-01 for carrier; MANF: SAMTEC, MOLEX; MANF_P#: ASP-186900-01; PARAM: FMC+ HSPCe, 80PIN, Module; PRICE: 11$; VALUE: FMC+_HSPC_M
footprint FMCP_HSPCE_M (FMC+ Module HSPCe male, ASP-186900)
part A pins: A3 DP24_C2M_P, A4 DP24_C2M_N, A7 DP26_C2M_P, A8 DP26_C2M_N, A11 DP28_C2M_P, A12 DP28_C2M_N, A15 DP30_C2M_P, A16 DP30_C2M_N, A19 RES4, A20 RES5
part B pins: B1 GBTCLK6_M2C_P, B2 GBTCLK6_M2C_N, B5 DP25_C2M_P, B6 DP25_C2M_N, B9 DP27_C2M_P, B10 DP27_C2M_N, B13 DP29_C2M_P, B14 DP29_C2M_N, B17 DP31_C2M_P, B18 DP31_C2M_N
part C pins: C3 DP24_M2C_P, C4 DP24_M2C_N, C7 DP26_M2C_P, C8 DP26_M2C_N, C11 DP28_M2C_P, C12 DP28_M2C_N, C15 DP30_M2C_P, C16 DP30_M2C_N, C19 GBTCLK7_M2C_P, C20 GBTCLK7_M2C_N
part D pins: D1 PRSNT_M2C_L, D2 RES6, D5 DP25_M2C_P, D6 DP25_M2C_N, D9 DP27_M2C_P, D10 DP27_M2C_N, D13 DP29_M2C_P, D14 DP29_M2C_N, D17 DP31_M2C_P, D18 DP31_M2C_N
part E pins: A1 G#A1, A2 G#A2, A5 G#A5, A6 G#A6, A9 G#A9, A10 G#A10, A13 G#A13, A14 G#A14, A17 G#A17, A18 G#A18, B3 G#B3, B4 G#B4, B7 G#B7, B8 G#B8, B11 G#B11, B12 G#B12, B15 G#B15, B16 G#B16, B19 G#B19, B20 G#B20, C1 G#C1, C2 G#C2, C5 G#C5, C6 G#C6, C9 G#C9, C10 G#C10, C13 G#C13, C14 G#C14, C17 G#C17, C18 G#C18, D3 G#D3, D4 G#D4, D7 G#D7, D8 G#D8, D11 G#D11, D12 G#D12, D15 G#D15, D16 G#D16, D19 G#D19, D20 G#D20
part A text: A
part B text: B
part C text: C; LPC
part D text: D; HSPCE; LPC
part E text: GND Pins

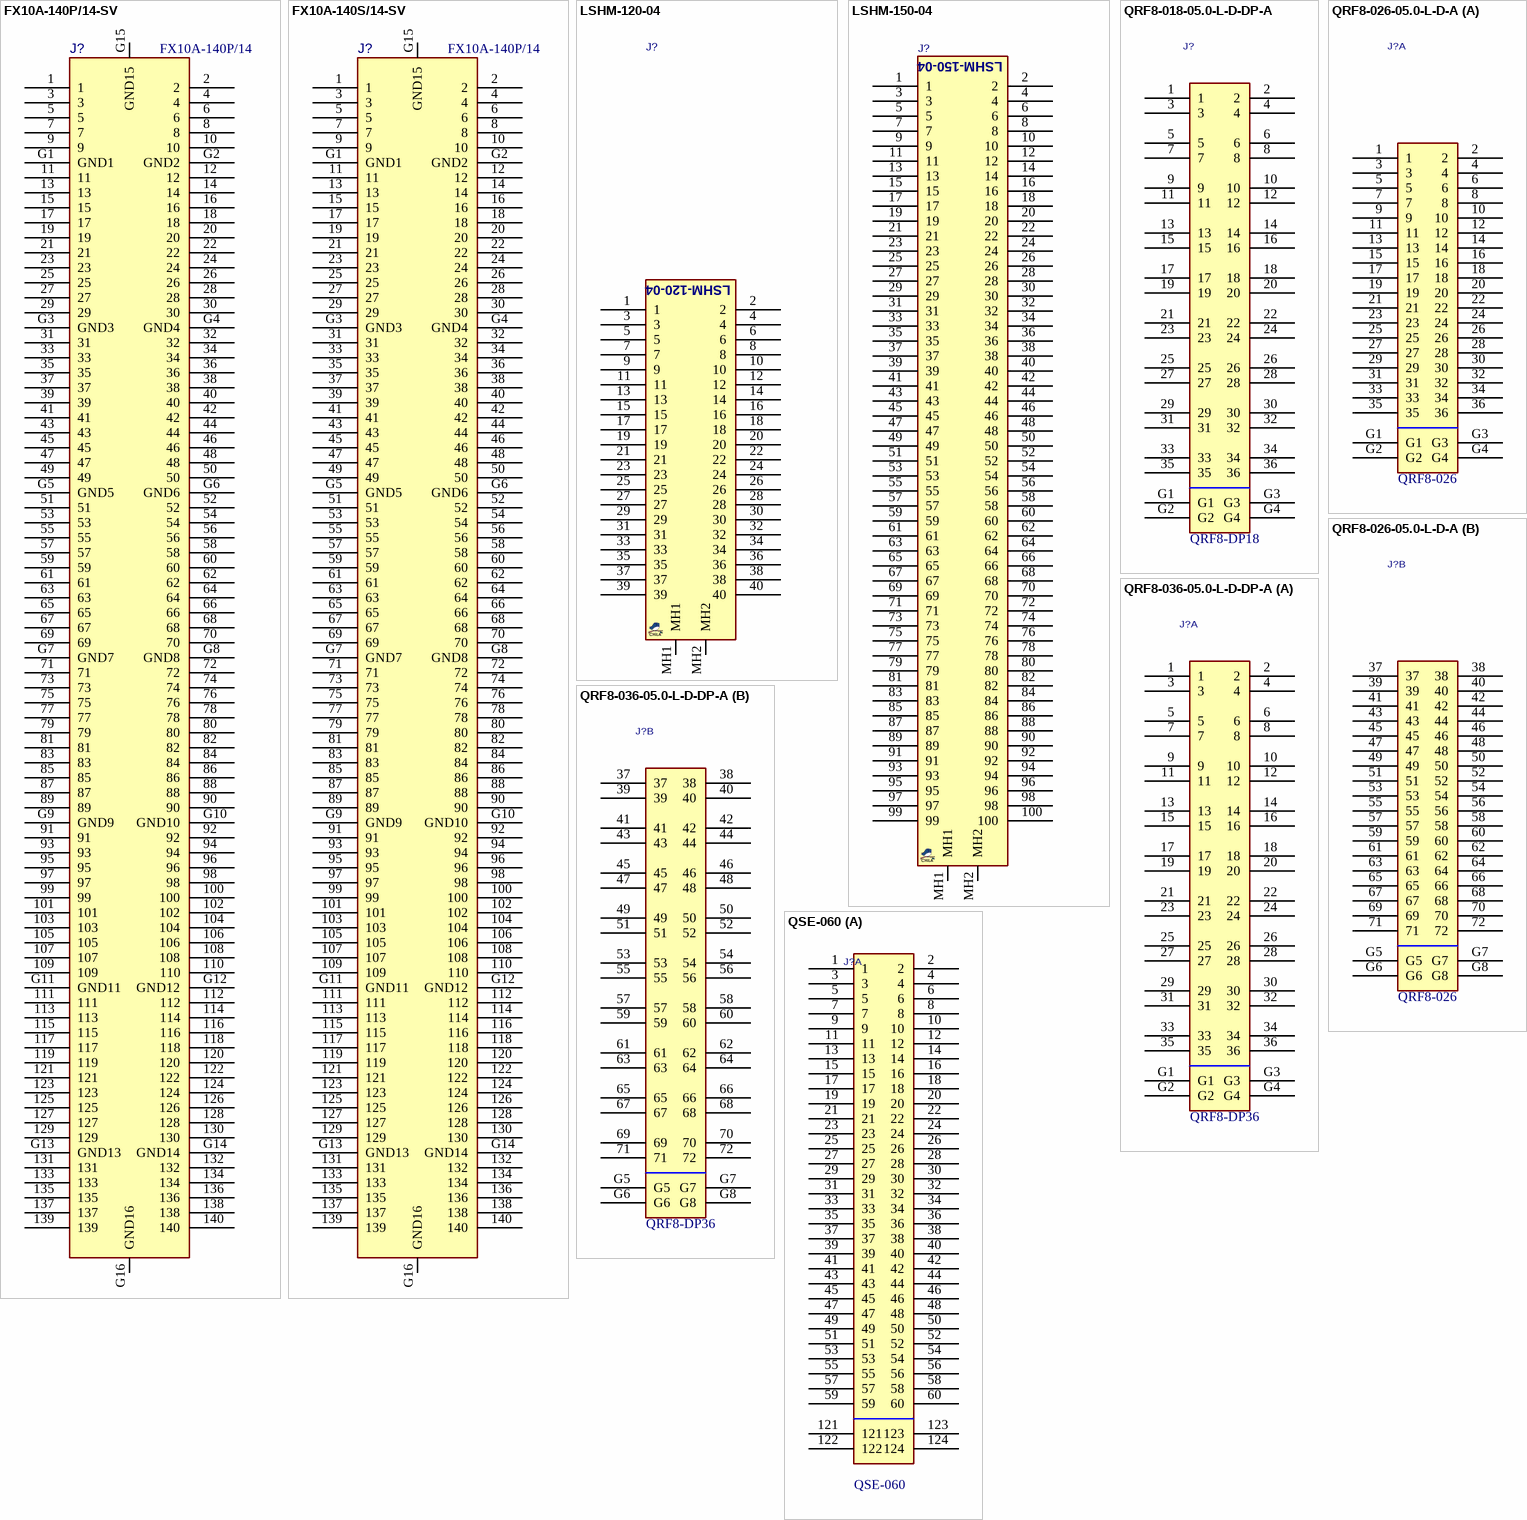
[diagram p9: symbols FX10A-140P/14-SV to QSE-060]

## FX10A-140P/14-SV
designator J?, comment FX10A-140P/14
FX10 Series B2B Connectors; MANF: HIROSE; DESC: Mating FX10A-140S/14-SV; MANF_P#: FX10A-140P/14-SV(71); PRICE: 6.4$; VALUE: FX10A-140P/14
footprint DF23C_20DS (Hirose Connector DF23C-20DS-0.5V(51) 20WAY pitch:0.5mm)
pins: 1, 2, 3, 4, 5, 6, 7, 8, 9, 10, 11, 12, 13, 14, 15, 16, 17, 18, 19, 20, 21, 22, 23, 24, 25, 26, 27, 28, 29, 30, 31, 32, 33, 34, 35, 36, 37, 38, 39, 40, 41, 42, 43, 44, 45, 46, 47, 48, 49, 50, 51, 52, 53, 54, 55, 56, 57, 58, 59, 60, 61, 62, 63, 64, 65, 66, 67, 68, 69, 70, 71, 72, 73, 74, 75, 76, 77, 78, 79, 80, 81, 82, 83, 84, 85, 86, 87, 88, 89, 90, 91, 92, 93, 94, 95, 96, 97, 98, 99, 100, 101, 102, 103, 104, 105, 106, 107, 108, 109, 110, 111, 112, 113, 114, 115, 116, 117, 118, 119, 120, 121, 122, 123, 124, 125, 126, 127, 128, 129, 130, 131, 132, 133, 134, 135, 136, 137, 138, 139, 140, G1 GND1 (power), G2 GND2 (power), G3 GND3 (power), G4 GND4 (power), G5 GND5 (power), G6 GND6 (power), G7 GND7 (power), G8 GND8 (power), G9 GND9 (power), G10 GND10 (power), G11 GND11 (power), G12 GND12 (power), G13 GND13 (power), G14 GND14 (power), G15 GND15, G16 GND16

## FX10A-140S/14-SV
designator J?, comment FX10A-140P/14
FX10 Series B2B Connectors; MANF: HIROSE; DESC: Mating FX10A-140P/14-SV(71); MANF_P#: FX10A-140S/14-SV; PRICE: 6.4$; VALUE: FX10A-140P/14
footprint FX10A_140S_14 (FX10A-140S/14-SV HIROSE)
pins: 1, 2, 3, 4, 5, 6, 7, 8, 9, 10, 11, 12, 13, 14, 15, 16, 17, 18, 19, 20, 21, 22, 23, 24, 25, 26, 27, 28, 29, 30, 31, 32, 33, 34, 35, 36, 37, 38, 39, 40, 41, 42, 43, 44, 45, 46, 47, 48, 49, 50, 51, 52, 53, 54, 55, 56, 57, 58, 59, 60, 61, 62, 63, 64, 65, 66, 67, 68, 69, 70, 71, 72, 73, 74, 75, 76, 77, 78, 79, 80, 81, 82, 83, 84, 85, 86, 87, 88, 89, 90, 91, 92, 93, 94, 95, 96, 97, 98, 99, 100, 101, 102, 103, 104, 105, 106, 107, 108, 109, 110, 111, 112, 113, 114, 115, 116, 117, 118, 119, 120, 121, 122, 123, 124, 125, 126, 127, 128, 129, 130, 131, 132, 133, 134, 135, 136, 137, 138, 139, 140, G1 GND1 (power), G2 GND2 (power), G3 GND3 (power), G4 GND4 (power), G5 GND5 (power), G6 GND6 (power), G7 GND7 (power), G8 GND8 (power), G9 GND9 (power), G10 GND10 (power), G11 GND11 (power), G12 GND12 (power), G13 GND13 (power), G14 GND14 (power), G15 GND15, G16 GND16

## LSHM-120-04
designator J?  (value not drawn)
CONN, HI-SPD, Up to6/12Gbps, Hermaphroditic Terminal/Socket; MANF: SAMTEC; MANF_P#: LSHM-120-04.0-L-DV-A-S-K-TR; PARAM2: 5~12mm stack heights, 20X2position; PARAM: Up to6/12Gbps, Hermaphroditic Terminal/Socket; PRICE: 5$; VALUE: LSHM-120-04
footprint LSHM120_04 (Footprint not found)
pins: 1, 2, 3, 4, 5, 6, 7, 8, 9, 10, 11, 12, 13, 14, 15, 16, 17, 18, 19, 20, 21, 22, 23, 24, 25, 26, 27, 28, 29, 30, 31, 32, 33, 34, 35, 36, 37, 38, 39, 40, MH1, MH2

## LSHM-150-04
designator J?  (value not drawn)
CONN, HI-SPD, Up to6/12Gbps, Hermaphroditic Terminal/Socket; MANF: SAMTEC; MANF_P#: LSHM-150-04.0-L-DV-A-S-K-TR; PARAM2: 5~12mm stack heights, 50X2position; PARAM: Up to6/12Gbps, Hermaphroditic Terminal/Socket; PRICE: 12$; VALUE: LSHM-150-04
footprint LSHM150_04 (LSHM-150-04.0-L-DV-A-S)
pins: 1, 2, 3, 4, 5, 6, 7, 8, 9, 10, 11, 12, 13, 14, 15, 16, 17, 18, 19, 20, 21, 22, 23, 24, 25, 26, 27, 28, 29, 30, 31, 32, 33, 34, 35, 36, 37, 38, 39, 40, 41, 42, 43, 44, 45, 46, 47, 48, 49, 50, 51, 52, 53, 54, 55, 56, 57, 58, 59, 60, 61, 62, 63, 64, 65, 66, 67, 68, 69, 70, 71, 72, 73, 74, 75, 76, 77, 78, 79, 80, 81, 82, 83, 84, 85, 86, 87, 88, 89, 90, 91, 92, 93, 94, 95, 96, 97, 98, 99, 100, MH1, MH2

## QRF8-018-05.0-L-D-DP-A
designator J?, comment QRF8-DP18
CONN, HI-SPD, Up to10/20Gbps, ground plane, Slim-width4.6mm, , Diff-Pair; MANF: SAMTEC; MANF_P#: QRF8-018-05.0-L-D-DP-A; PARAM2: width4.6mm, 7~14mm stack heights; PARAM: Up to10/20Gbps, ground plane, pitch0.8mm; VALUE: QRF8-DP18
footprint QRF8_018_D_DP_A (Samtec, QRF8-018-D-DP-A, 0.80 mm Q Rate® High-Speed Ground Plane Slim Body Socket Strip, Differential Pair)
pins: 1, 2, 3, 4, 5, 6, 7, 8, 9, 10, 11, 12, 13, 14, 15, 16, 17, 18, 19, 20, 21, 22, 23, 24, 25, 26, 27, 28, 29, 30, 31, 32, 33, 34, 35, 36, G1, G2, G3, G4

## QRF8-026-05.0-L-D-A
designator J?, comment QRF8-026
CONN, HI-SPD, Up to10Gbps, ground plane; MANF: SAMTEC; MANF_P#: QRF8-026-05.0-L-D-A; PARAM2: width4.6mm; PARAM: Up to10/20Gbps, ground plane, pitch0.8mm; VALUE: QRF8-026
footprint QRF8_026_L_D_A (CONN, B2B, SAMTEC, QRF8, QRF8-026-05.0-L-D-A, 0.80 mm Q Rate® Slim Body Ground Plane Socket)
part A pins: 1, 2, 3, 4, 5, 6, 7, 8, 9, 10, 11, 12, 13, 14, 15, 16, 17, 18, 19, 20, 21, 22, 23, 24, 25, 26, 27, 28, 29, 30, 31, 32, 33, 34, 35, 36, G1, G2, G3, G4
part B pins: 37, 38, 39, 40, 41, 42, 43, 44, 45, 46, 47, 48, 49, 50, 51, 52, 53, 54, 55, 56, 57, 58, 59, 60, 61, 62, 63, 64, 65, 66, 67, 68, 69, 70, 71, 72, G5, G6, G7, G8

## QRF8-036-05.0-L-D-DP-A
designator J?, comment QRF8-DP36
CONN, HI-SPD, Up to10/20Gbps, ground plane, Slim-width4.6mm, Diff-Pair; MANF: SAMTEC; MANF_P#: QRF8-036-05.0-L-D-DP-A; PARAM2: width4.6mm, 7~14mm stack heights; PARAM: Up to10/20Gbps, ground plane, pitch0.8mm; VALUE: QRF8-DP36
footprint QRF8_036_D_DP_A (Samtec, QRF8-036-D-DP-A, 0.80 mm Q Rate® High-Speed Ground Plane Slim Body Socket Strip, Differential Pair)
part A pins: 1, 2, 3, 4, 5, 6, 7, 8, 9, 10, 11, 12, 13, 14, 15, 16, 17, 18, 19, 20, 21, 22, 23, 24, 25, 26, 27, 28, 29, 30, 31, 32, 33, 34, 35, 36, G1, G2, G3, G4
part B pins: 37, 38, 39, 40, 41, 42, 43, 44, 45, 46, 47, 48, 49, 50, 51, 52, 53, 54, 55, 56, 57, 58, 59, 60, 61, 62, 63, 64, 65, 66, 67, 68, 69, 70, 71, 72, G5, G6, G7, G8

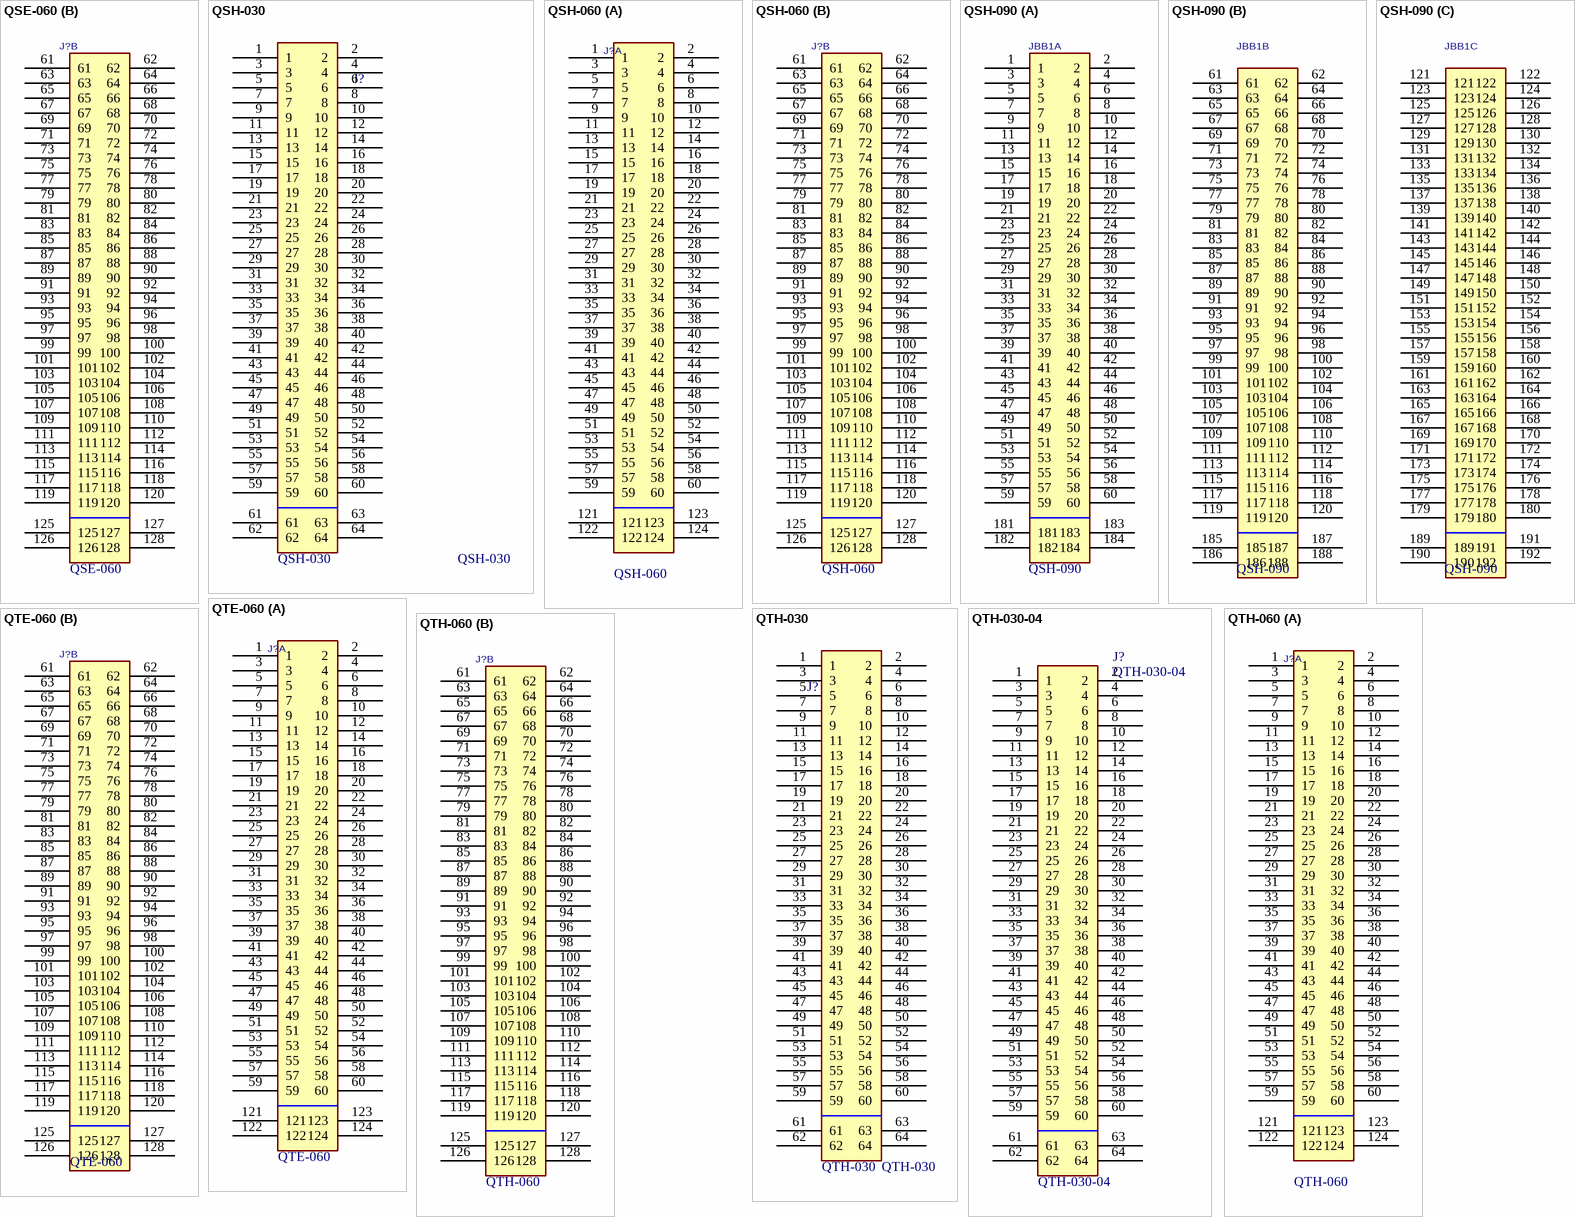
[diagram p10: symbols QSE-060 to QTH-060]

## QSE-060
designator J?
CONN, HI-SPD, Q-strip, 0.8mm pitch, Socket, 120P; MANF: SAMTEC; MANF_P#: QSE-060-01-X-D-A; VALUE: QSE-060
footprint QSE_060_01 (samtec 0.80 mm Q Strip® High Speed Ground Plane Socket Strip)
part A pins: 1, 2, 3, 4, 5, 6, 7, 8, 9, 10, 11, 12, 13, 14, 15, 16, 17, 18, 19, 20, 21, 22, 23, 24, 25, 26, 27, 28, 29, 30, 31, 32, 33, 34, 35, 36, 37, 38, 39, 40, 41, 42, 43, 44, 45, 46, 47, 48, 49, 50, 51, 52, 53, 54, 55, 56, 57, 58, 59, 60, 121, 122, 123, 124
part B pins: 61, 62, 63, 64, 65, 66, 67, 68, 69, 70, 71, 72, 73, 74, 75, 76, 77, 78, 79, 80, 81, 82, 83, 84, 85, 86, 87, 88, 89, 90, 91, 92, 93, 94, 95, 96, 97, 98, 99, 100, 101, 102, 103, 104, 105, 106, 107, 108, 109, 110, 111, 112, 113, 114, 115, 116, 117, 118, 119, 120, 125, 126, 127, 128

## QSH-030
designator J?
CONN, HI-SPD, Q-strip, 0.5mm pitch, Socket, 60P; MANF: SAMTEC; MANF_P#: QSH-030-01-L-D-A; DESC: 5mm, 8mm, 11mm, 16mm, 19mm, 25mm, Mating QTH-030-02-L-D-A; PRICE: 1=8.96, 10=8.288, 25=7.84, 50=7.4368, 100=6.944, 250=6.048, 500=5.824, 1000=5.6 (USD); Value: QSH-030
footprint QSH_030_01 (samtec 0.50mm Q Strip® High Speed Ground Plane Socket Strip)
pins: 1, 2, 3, 4, 5, 6, 7, 8, 9, 10, 11, 12, 13, 14, 15, 16, 17, 18, 19, 20, 21, 22, 23, 24, 25, 26, 27, 28, 29, 30, 31, 32, 33, 34, 35, 36, 37, 38, 39, 40, 41, 42, 43, 44, 45, 46, 47, 48, 49, 50, 51, 52, 53, 54, 55, 56, 57, 58, 59, 60, 61, 62, 63, 64, 65 HOLE1 hidden, 66 HOLE2 hidden